# Altium integrated library Altera Cyclone IV E.IntLib: 141 symbols (part 33 of 33)
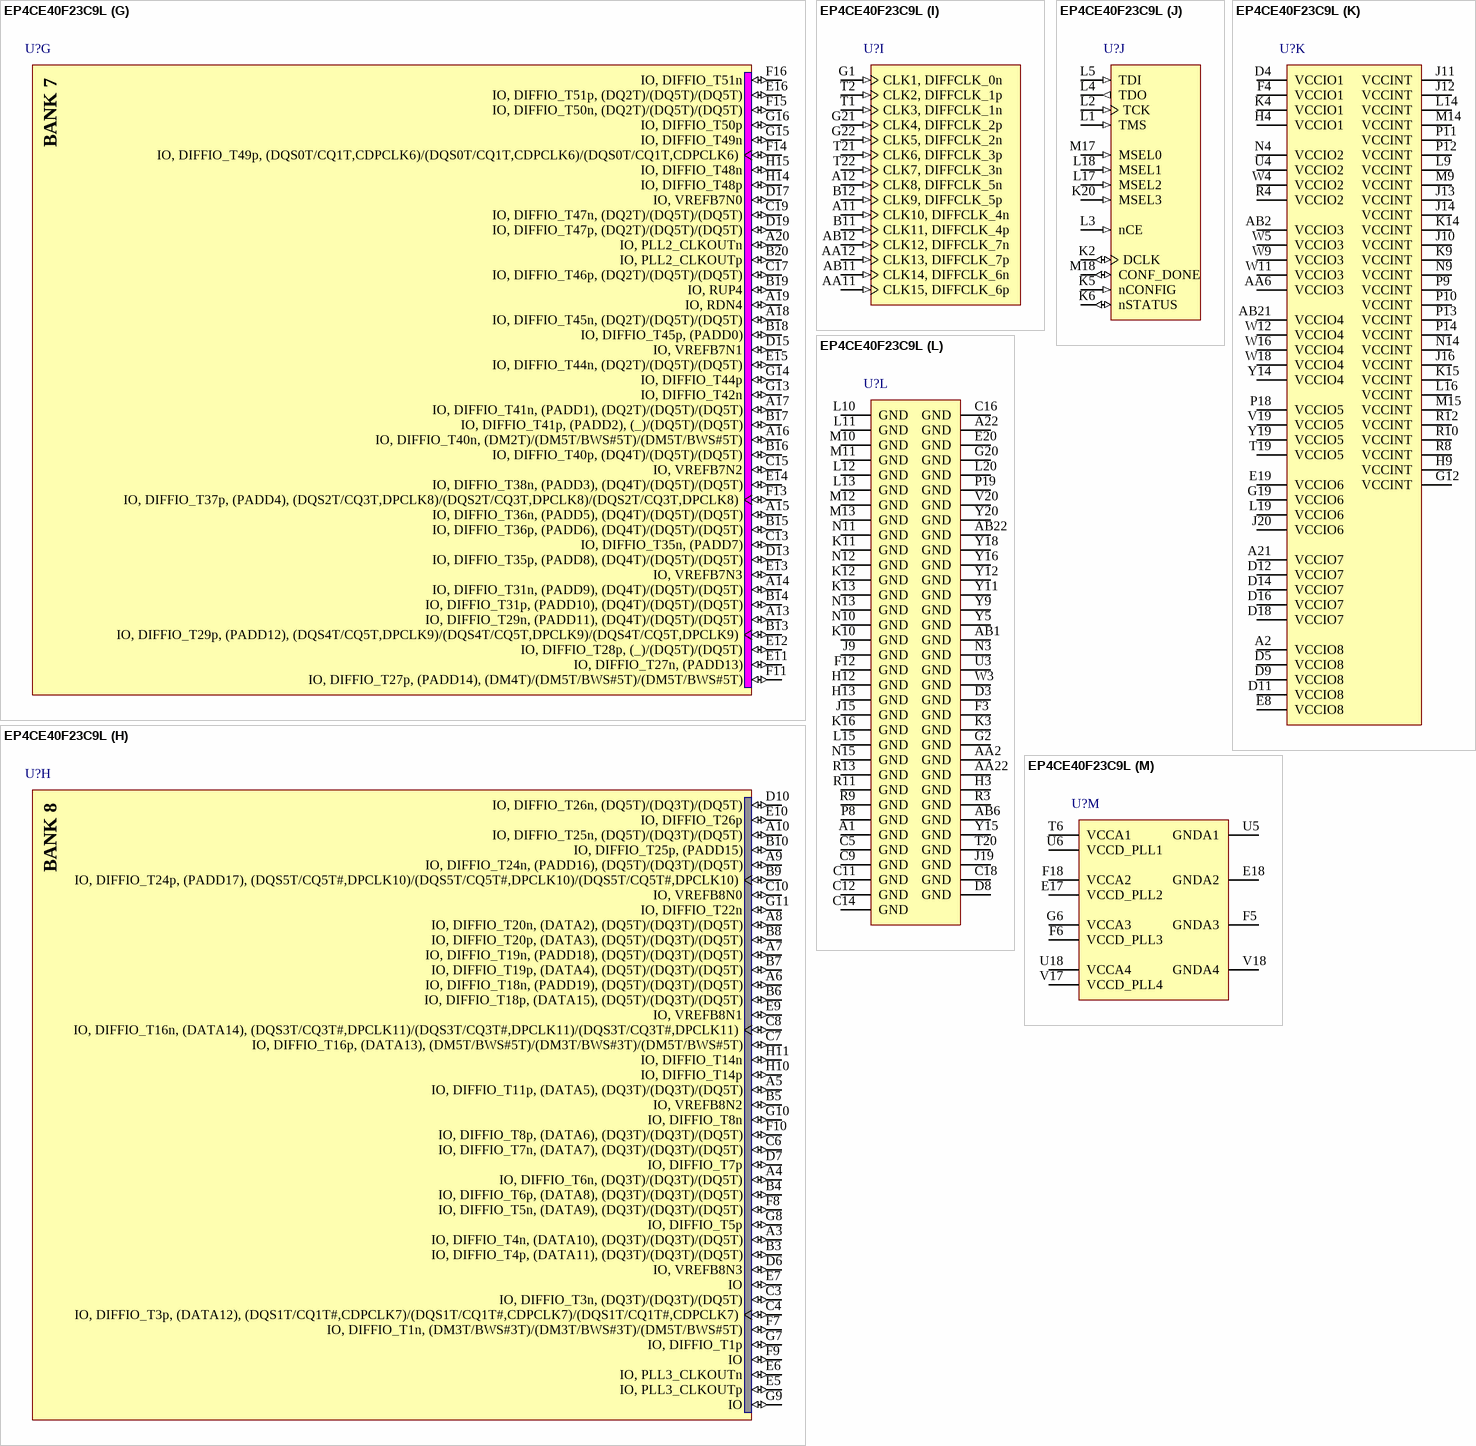
[diagram p419: symbol EP4CE40F23C9L]

## EP4CE40F23C9L
designator U?
Cyclone IV Family FPGA, 1V Core, 328 I/O Pins, 4 PLLs, 484-Pin FBGA, Speed Grade 9, Commercial Grade; DatasheetVersion: ver1.2, Mar-2010; PackageVersion: ver16.0, Dec-2009; PackageReference: FBGA484; PackageDescription: 484-Ball FineLine Ball Grid Array (FBGA484) - Flip Chip; Code_JEDEC: MS-034-AAJ-1; Code_IPC: BGA100P22X22-484; ComponentLink1Description: Manufacturer URL; ComponentLink1URL: http://www.altera.com/; ComponentLink2Description: Handbook; ComponentLink2URL: http://www.altera.com/literature/hb/cyclone-iv/cyclone4-handbook.pdf; ComponentLink3Description: Pinout; ComponentLink3URL: http://www.altera.com/literature/lit-dp.jsp?category=cyc%204&showspreadsheet=y; ComponentLink4Description: Package Specification; ComponentLink4URL: http://www.altera.com/literature/ds/dspkg.pdf
footprint FBGA484 (BGA, 484-Leads, Body 23x23mm, Pitch 1mm)
part A pins: B1 IO, DIFFIO_L2n, (DQ2L)/(DQ1L)/(DQ1L) (io), B2 IO, DIFFIO_L2p, (DQ2L)/(DQ1L)/(DQ1L) (io), C1 IO, DIFFIO_L7n, (DQ2L)/(DQ1L)/(DQ1L) (io), C2 IO, DIFFIO_L7p, (DQS2L/CQ3L,CDPCLK0)/(DQS2L/CQ3L,CDPCLK0)/(DQS2L/CQ3L,CDPCLK0) (io), D1 IO, DIFFIO_L8n, (DATA1,ASDO) (io), D2 IO, DIFFIO_L8p, (DQ2L)/(DQ1L)/(DQ1L) (io), E1 IO, DIFFIO_L10n, (_)/(DQ1L)/(DQ1L) (io), E2 IO, DIFFIO_L10p, (FLASH_nCE,nCSO) (io), E3 IO, DIFFIO_L4n, (DQ2L)/(DQ1L)/(DQ1L) (io), E4 IO, DIFFIO_L4p, (nRESET), (DQ2L)/(DQ1L)/(DQ1L) (io), F1 IO, DIFFIO_L12n, (DQ0L)/(DQ1L)/(DQ1L) (io), F2 IO, DIFFIO_L12p, (DM2L)/(DM1L/BWS#1L)/(DM1L/BWS#1L) (io), G3 IO, DIFFIO_L1n (io), G4 IO, DIFFIO_L1p (io), G5 IO, VREFB1N0 (io), H1 IO, DIFFIO_L23n, (DQ0L)/(DQ1L)/(DQ1L) (io), H2 IO, DIFFIO_L23p, (DQ0L)/(DQ1L)/(DQ1L) (io), H5 IO, VREFB1N2 (io), H6 IO, DIFFIO_L9p, (DQ2L)/(DQ1L)/(DQ1L) (io), H7 IO, VREFB1N1 (io), H8 IO, DIFFIO_L14p (io), J1 IO, DIFFIO_L24n, (DQ0L)/(DQ1L)/(DQ1L) (io), J2 IO, DIFFIO_L24p, (DQ0L)/(DQ1L)/(DQ1L) (io), J3 IO, VREFB1N3 (io), J4 IO, (DQS0L/CQ1L,DPCLK0)/(DQS0L/CQ1L,DPCLK0)/(DQS0L/CQ1L,DPCLK0) (io), J5 IO, DIFFIO_L18n (io), J6 IO, DIFFIO_L9n, (DQ2L)/(DQ1L)/(DQ1L) (io), J7 IO, DIFFIO_L21p (io), J8 IO, DIFFIO_L14n (io), K1 IO, (DATA0) (io), K7 IO, DIFFIO_L21n (io), K8 IO, DIFFIO_L20n (io), L8 IO, DIFFIO_L20p (io)
part B pins: AA1 IO, DIFFIO_L50n, (DQ3L)/(DQ3L)/(DQ1L) (io), L6 IO, DIFFIO_L26p, (DQ0L)/(DQ1L)/(DQ1L) (io), L7 IO, DIFFIO_L30n (io), M1 IO, DIFFIO_L27n, (_)/(DQ1L)/(DQ1L) (io), M2 IO, DIFFIO_L27p, (DQ0L)/(DQ1L)/(DQ1L) (io), M3 IO, DIFFIO_L28n, (DQ1L)/(DQ3L)/(DQ1L) (io), M4 IO, DIFFIO_L28p, (DM0L)/(DM1L/BWS#1L)/(DM1L/BWS#1L) (io), M5 IO, VREFB2N0 (io), M6 IO, DIFFIO_L26n, (DQ0L)/(DQ1L)/(DQ1L) (io), M7 IO, DIFFIO_L41n (io), M8 IO, DIFFIO_L42p (io), N1 IO, DIFFIO_L29n, (DQ1L)/(DQ3L)/(DQ1L) (io), N2 IO, DIFFIO_L29p, (DQ1L)/(DQ3L)/(DQ1L) (io), N5 IO, (DQ1L)/(DQ3L)/(DQ1L) (io), N6 IO, DIFFIO_L41p, (DQ3L)/(DQ3L)/(DQ1L) (io), N7 IO, DIFFIO_L49p (io), N8 IO, DIFFIO_L42n (io), P1 IO, DIFFIO_L32n, (DQ1L)/(DQ3L)/(DQ1L) (io), P2 IO, DIFFIO_L32p, (DQ1L)/(DQ3L)/(DQ1L) (io), P3 IO, DIFFIO_L34n, (DQ1L)/(DQ3L)/(DQ1L) (io), P4 IO, DIFFIO_L34p, (DQS1L/CQ1L#,DPCLK1)/(DQS1L/CQ1L#,DPCLK1)/(DQS1L/CQ1L#,DPCLK1) (io), P5 IO, VREFB2N1 (io), P6 IO, DIFFIO_L52p (io), P7 IO, DIFFIO_L49n (io), R1 IO, DIFFIO_L33n, (DQ1L)/(DQ3L)/(DQ1L) (io), R2 IO, DIFFIO_L33p, (DQ1L)/(DQ3L)/(DQ1L) (io), R5 IO, VREFB2N3 (io), R6 IO (io), R7 IO, DIFFIO_L53p (io), T3 IO, VREFB2N2 (io), T4 IO, (DQS3L/CQ3L#,CDPCLK1)/(DQS3L/CQ3L#,CDPCLK1)/(DQS3L/CQ3L#,CDPCLK1) (io), T5 IO, (DM3L/BWS#3L)/(DM3L/BWS#3L)/(DM1L/BWS#1L) (io), T7 IO, DIFFIO_L53n (io), U1 IO, DIFFIO_L35n, (DQ3L)/(DQ3L)/(DQ1L) (io), U2 IO, DIFFIO_L35p, (DM1L/BWS#1L)/(DM3L/BWS#3L)/(DM1L/BWS#1L) (io), V1 IO, DIFFIO_L38n, (DQ3L)/(DQ3L)/(DQ1L) (io), V2 IO, DIFFIO_L38p, (DQ3L)/(DQ3L)/(DQ1L) (io), V3 IO, RDN1 (io), V4 IO, RUP1 (io), W1 IO, DIFFIO_L44n, (DQ3L)/(DQ3L)/(DQ1L) (io), W2 IO, DIFFIO_L44p, (DQ3L)/(DQ3L)/(DQ1L) (io), Y1 IO, DIFFIO_L45n, (DQ3L)/(DQ3L)/(DQ1L) (io), Y2 IO, DIFFIO_L45p, (DQ3L)/(DQ3L)/(DQ1L) (io)
part C pins: AA3 IO, PLL1_CLKOUTp (io), AA4 IO, (DQ3B)/(DQ3B)/(DQ5B) (io), AA5 IO, DIFFIO_B8p, (DQ3B)/(DQ3B)/(DQ5B) (io), AA7 IO, DIFFIO_B14p, (DM5B/BWS#5B)/(DM3B/BWS#3B)/(DM5B/BWS#5B) (io), AA8 IO, DIFFIO_B18p, (DQ5B)/(DQ3B)/(DQ5B) (io), AA9 IO, DIFFIO_B21p, (DQ5B)/(DQ3B)/(DQ5B) (io), AA10 IO, DIFFIO_B27p, (DM4B)/(DM5B/BWS#5B)/(DM5B/BWS#5B) (io), AB3 IO, PLL1_CLKOUTn (io), AB4 IO, VREFB3N2 (io), AB5 IO, DIFFIO_B8n (io), AB7 IO, DIFFIO_B14n, (DQ5B)/(DQ3B)/(DQ5B) (io), AB8 IO, DIFFIO_B18n, (DQ5B)/(DQ3B)/(DQ5B) (io), AB9 IO, DIFFIO_B21n, (DQS5B/CQ5B#,DPCLK3)/(DQS5B/CQ5B#,DPCLK3)/(DQS5B/CQ5B#,DPCLK3) (io), AB10 IO, DIFFIO_B27n, (_)/(DQ5B)/(DQ5B) (io), T8 IO, DIFFIO_B11p (io), T9 IO, DIFFIO_B11n (io), T10 IO, DIFFIO_B15p (io), T11 IO, DIFFIO_B15n (io), U7 IO, DIFFIO_B3p (io), U8 IO, DIFFIO_B3n (io), U9 IO, DIFFIO_B13p, (DQ3B)/(DQ3B)/(DQ5B) (io), U10 IO, DIFFIO_B17n, (DQ5B)/(DQ3B)/(DQ5B) (io), U11 IO, VREFB3N0 (io), V5 IO, DIFFIO_B1n, (DM3B/BWS#3B)/(DM3B/BWS#3B)/(DM5B/BWS#5B) (io), V6 IO, DIFFIO_B1p (io), V7 IO, DIFFIO_B7n (io), V8 IO, DIFFIO_B13n, (DQ3B)/(DQ3B)/(DQ5B) (io), V9 IO, VREFB3N1 (io), V10 IO, DIFFIO_B16p, (DQS3B/CQ3B#,DPCLK2)/(DQS3B/CQ3B#,DPCLK2)/(DQS3B/CQ3B#,DPCLK2) (io), V11 IO, DIFFIO_B25n, (DQ5B)/(DQ3B)/(DQ5B) (io), W6 IO, DIFFIO_B7p, (DQ3B)/(DQ3B)/(DQ5B) (io), W7 IO, DIFFIO_B12p, (DQ3B)/(DQ3B)/(DQ5B) (io), W8 IO, (DQ3B)/(DQ3B)/(DQ5B) (io), W10 IO, DIFFIO_B26p, (DQ5B)/(DQ3B)/(DQ5B) (io), Y3 IO, DIFFIO_B4p, (DQ3B)/(DQ3B)/(DQ5B) (io), Y4 IO, VREFB3N3 (io), Y6 IO, DIFFIO_B6p, (DQS1B/CQ1B#,CDPCLK2)/(DQS1B/CQ1B#,CDPCLK2)/(DQS1B/CQ1B#,CDPCLK2) (io), Y7 IO, DIFFIO_B12n, (DQ3B)/(DQ3B)/(DQ5B) (io), Y8 IO, (DQ5B)/(DQ3B)/(DQ5B) (io), Y10 IO, DIFFIO_B26n, (DQ5B)/(DQ3B)/(DQ5B) (io)
part D pins: AA13 IO, DIFFIO_B28p, (DQ4B)/(DQ5B)/(DQ5B) (io), AA14 IO, DIFFIO_B29p, (DQ4B)/(DQ5B)/(DQ5B) (io), AA15 IO, DIFFIO_B33p, (DQ4B)/(DQ5B)/(DQ5B) (io), AA16 IO, DIFFIO_B35p, (DM2B)/(DM5B/BWS#5B)/(DM5B/BWS#5B) (io), AA17 IO, DIFFIO_B43p (io), AA18 IO, VREFB4N1 (io), AA19 IO, RUP2 (io), AA20 IO, DIFFIO_B49p, (_)/(DQ5B)/(DQ5B) (io), AB13 IO, DIFFIO_B28n, (DQ4B)/(DQ5B)/(DQ5B) (io), AB14 IO, DIFFIO_B29n, (DQ4B)/(DQ5B)/(DQ5B) (io), AB15 IO, DIFFIO_B33n, (DQ4B)/(DQ5B)/(DQ5B) (io), AB16 IO, DIFFIO_B35n, (DQ2B)/(DQ5B)/(DQ5B) (io), AB17 IO, DIFFIO_B43n (io), AB18 IO, (DQ2B)/(DQ5B)/(DQ5B) (io), AB19 IO, RDN2 (io), AB20 IO, DIFFIO_B49n, (DQ2B)/(DQ5B)/(DQ5B) (io), R14 IO, DIFFIO_B52p (io), R15 IO, DIFFIO_B52n (io), R16 IO, PLL4_CLKOUTn (io), T12 IO, DIFFIO_B36p (io), T13 IO, DIFFIO_B36n (io), T14 IO, DIFFIO_B42p (io), T15 IO, DIFFIO_B42n, (DQ2B)/(DQ5B)/(DQ5B) (io), T16 IO, PLL4_CLKOUTp (io), U12 IO, DIFFIO_B34p, (DQ4B)/(DQ5B)/(DQ5B) (io), U13 IO, DIFFIO_B38n (io), U14 IO, DIFFIO_B39n (io), U15 IO, DIFFIO_B40p (io), U16 IO, DIFFIO_B50p (io), U17 IO, DIFFIO_B50n (io), V12 IO, VREFB4N3 (io), V13 IO, (DQS2B/CQ3B,DPCLK5)/(DQS2B/CQ3B,DPCLK5)/(DQS2B/CQ3B,DPCLK5) (io), V14 IO, DIFFIO_B39p, (DQ2B)/(DQ5B)/(DQ5B) (io), V15 IO, DIFFIO_B40n, (DQ2B)/(DQ5B)/(DQ5B) (io), V16 IO, VREFB4N0 (io), W13 IO, DIFFIO_B32p, (DQ4B)/(DQ5B)/(DQ5B) (io), W14 IO, VREFB4N2 (io), W15 IO, DIFFIO_B41n, (DQ2B)/(DQ5B)/(DQ5B) (io), W17 IO, DIFFIO_B48p, (DQ2B)/(DQ5B)/(DQ5B) (io), Y13 IO, DIFFIO_B32n, (DQS4B/CQ5B,DPCLK4)/(DQS4B/CQ5B,DPCLK4)/(DQS4B/CQ5B,DPCLK4) (io), Y17 IO, DIFFIO_B48n, (DQS0B/CQ1B,CDPCLK3)/(DQS0B/CQ1B,CDPCLK3)/(DQS0B/CQ1B,CDPCLK3) (io)
part E pins: AA21 IO, DIFFIO_R56p, (DM3R/BWS#3R)/(DM3R/BWS#3R)/(DM1R/BWS#1R) (io), M16 IO, VREFB5N0 (io), M19 IO, DIFFIO_R30p, (DQ1R)/(DQ3R)/(DQ1R) (io), M20 IO, DIFFIO_R30n, (DQ1R)/(DQ3R)/(DQ1R) (io), M21 IO, DIFFIO_R31p, (DQ1R)/(DQ3R)/(DQ1R) (io), M22 IO, DIFFIO_R31n, (DQ1R)/(DQ3R)/(DQ1R) (io), N16 IO, DIFFIO_R40p (io), N17 IO, DIFFIO_R33n (io), N18 IO, DIFFIO_R33p, (DQS1R/CQ1R#,DPCLK6)/(DQS1R/CQ1R#,DPCLK6)/(DQS1R/CQ1R#,DPCLK6) (io), N19 IO, DIFFIO_R36p (io), N20 IO, DIFFIO_R36n, (DQ1R)/(DQ3R)/(DQ1R) (io), N21 IO, DIFFIO_R32p, (DEV_CLRn) (io), N22 IO, DIFFIO_R32n, (DEV_OE) (io), P15 IO, DIFFIO_R46n (io), P16 IO, DIFFIO_R46p (io), P17 IO (io), P20 IO, VREFB5N1 (io), P21 IO, DIFFIO_R38p, (DQ1R)/(DQ3R)/(DQ1R) (io), P22 IO, DIFFIO_R38n, (DQ1R)/(DQ3R)/(DQ1R) (io), R17 IO, VREFB5N2 (io), R18 IO, DIFFIO_R42n (io), R19 IO, DIFFIO_R42p, (DM1R/BWS#1R)/(DM3R/BWS#3R)/(DM1R/BWS#1R) (io), R20 IO, DIFFIO_R44n, (DQ3R)/(DQ3R)/(DQ1R) (io), R21 IO, DIFFIO_R39p, (DQ1R)/(DQ3R)/(DQ1R) (io), R22 IO, DIFFIO_R39n, (DQ1R)/(DQ3R)/(DQ1R) (io), T17 IO, RUP3 (io), T18 IO, RDN3 (io), U19 IO, DIFFIO_R50p (io), U20 IO, DIFFIO_R50n, (DQ3R)/(DQ3R)/(DQ1R) (io), U21 IO, DIFFIO_R43p, (DQ3R)/(DQ3R)/(DQ1R) (io), U22 IO, DIFFIO_R43n, (DQ3R)/(DQ3R)/(DQ1R) (io), V21 IO, DIFFIO_R45p, (DQ3R)/(DQ3R)/(DQ1R) (io), V22 IO, DIFFIO_R45n, (DQ3R)/(DQ3R)/(DQ1R) (io), W19 IO, VREFB5N3 (io), W20 IO, (DQS3R/CQ3R#,CDPCLK4)/(DQS3R/CQ3R#,CDPCLK4)/(DQS3R/CQ3R#,CDPCLK4) (io), W21 IO, DIFFIO_R49p, (DQ3R)/(DQ3R)/(DQ1R) (io), W22 IO, DIFFIO_R49n, (DQ3R)/(DQ3R)/(DQ1R) (io), Y21 IO, DIFFIO_R51p (io), Y22 IO, DIFFIO_R51n, (DQ3R)/(DQ3R)/(DQ1R) (io)
part F pins: B21 IO, DIFFIO_R5p, (PADD21), (DQ2R)/(DQ1R)/(DQ1R) (io), B22 IO, DIFFIO_R5n, (PADD22), (DQ2R)/(DQ1R)/(DQ1R) (io), C20 IO, DIFFIO_R4n, (PADD20), (DQS2R/CQ3R,CDPCLK5)/(DQS2R/CQ3R,CDPCLK5)/(DQS2R/CQ3R,CDPCLK5) (io), C21 IO, DIFFIO_R6p, (DQ2R)/(DQ1R)/(DQ1R) (io), C22 IO, DIFFIO_R6n, (DQ2R)/(DQ1R)/(DQ1R) (io), D20 IO, VREFB6N0 (io), D21 IO, DIFFIO_R9p, (_)/(DQ1R)/(DQ1R) (io), D22 IO, DIFFIO_R9n, (DM2R)/(DM1R/BWS#1R)/(DM1R/BWS#1R) (io), E21 IO, DIFFIO_R12p, (nOE), (_)/(DQ1R)/(DQ1R) (io), E22 IO, DIFFIO_R12n, (nWE), (DQ0R)/(DQ1R)/(DQ1R) (io), F17 IO, DIFFIO_R2n, (DQ2R)/(DQ1R)/(DQ1R) (io), F19 IO, DIFFIO_R8p, (DQ2R)/(DQ1R)/(DQ1R) (io), F20 IO, DIFFIO_R8n, (nAVD), (DQ2R)/(DQ1R)/(DQ1R) (io), F21 IO, DIFFIO_R18p, (DQ0R)/(DQ1R)/(DQ1R) (io), F22 IO, DIFFIO_R18n, (DQ0R)/(DQ1R)/(DQ1R) (io), G17 IO, DIFFIO_R2p (io), G18 IO, DIFFIO_R7n, (PADD23), (DQ2R)/(DQ1R)/(DQ1R) (io), H16 IO, DIFFIO_R10p (io), H17 IO, DIFFIO_R7p (io), H18 IO, VREFB6N1 (io), H19 IO, DIFFIO_R13p, (DQ0R)/(DQ1R)/(DQ1R) (io), H20 IO, DIFFIO_R13n, (DQ0R)/(DQ1R)/(DQ1R) (io), H21 IO, DIFFIO_R22p, (DQ0R)/(DQ1R)/(DQ1R) (io), H22 IO, DIFFIO_R22n, (DQ0R)/(DQ1R)/(DQ1R) (io), J17 IO, DIFFIO_R10n (io), J18 IO, VREFB6N2 (io), J21 IO, DIFFIO_R23p, (DM0R)/(DM1R/BWS#1R)/(DM1R/BWS#1R) (io), J22 IO, DIFFIO_R23n, (DQS0R/CQ1R,DPCLK7)/(DQS0R/CQ1R,DPCLK7)/(DQS0R/CQ1R,DPCLK7) (io), K17 IO, DIFFIO_R20n (io), K18 IO, DIFFIO_R20p, (DQ0R)/(DQ1R)/(DQ1R) (io), K19 IO, VREFB6N3 (io), K21 IO, DIFFIO_R24p, (CLKUSR) (io), K22 IO, DIFFIO_R24n, (nCEO) (io), L21 IO, DIFFIO_R27p, (CRC_ERROR) (io), L22 IO, DIFFIO_R27n, (INIT_DONE) (io)
part G pins: A13 IO, DIFFIO_T29n, (PADD11), (DQ4T)/(DQ5T)/(DQ5T) (io), A14 IO, DIFFIO_T31n, (PADD9), (DQ4T)/(DQ5T)/(DQ5T) (io), A15 IO, DIFFIO_T36n, (PADD5), (DQ4T)/(DQ5T)/(DQ5T) (io), A16 IO, DIFFIO_T40n, (DM2T)/(DM5T/BWS#5T)/(DM5T/BWS#5T) (io), A17 IO, DIFFIO_T41n, (PADD1), (DQ2T)/(DQ5T)/(DQ5T) (io), A18 IO, DIFFIO_T45n, (DQ2T)/(DQ5T)/(DQ5T) (io), A19 IO, RDN4 (io), A20 IO, PLL2_CLKOUTn (io), B13 IO, DIFFIO_T29p, (PADD12), (DQS4T/CQ5T,DPCLK9)/(DQS4T/CQ5T,DPCLK9)/(DQS4T/CQ5T,DPCLK9) (io), B14 IO, DIFFIO_T31p, (PADD10), (DQ4T)/(DQ5T)/(DQ5T) (io), B15 IO, DIFFIO_T36p, (PADD6), (DQ4T)/(DQ5T)/(DQ5T) (io), B16 IO, DIFFIO_T40p, (DQ4T)/(DQ5T)/(DQ5T) (io), B17 IO, DIFFIO_T41p, (PADD2), (_)/(DQ5T)/(DQ5T) (io), B18 IO, DIFFIO_T45p, (PADD0) (io), B19 IO, RUP4 (io), B20 IO, PLL2_CLKOUTp (io), C13 IO, DIFFIO_T35n, (PADD7) (io), C15 IO, VREFB7N2 (io), C17 IO, DIFFIO_T46p, (DQ2T)/(DQ5T)/(DQ5T) (io), C19 IO, DIFFIO_T47n, (DQ2T)/(DQ5T)/(DQ5T) (io), D13 IO, DIFFIO_T35p, (PADD8), (DQ4T)/(DQ5T)/(DQ5T) (io), D15 IO, VREFB7N1 (io), D17 IO, VREFB7N0 (io), D19 IO, DIFFIO_T47p, (DQ2T)/(DQ5T)/(DQ5T) (io), E11 IO, DIFFIO_T27n, (PADD13) (io), E12 IO, DIFFIO_T28p, (_)/(DQ5T)/(DQ5T) (io), E13 IO, VREFB7N3 (io), E14 IO, DIFFIO_T38n, (PADD3), (DQ4T)/(DQ5T)/(DQ5T) (io), E15 IO, DIFFIO_T44n, (DQ2T)/(DQ5T)/(DQ5T) (io), E16 IO, DIFFIO_T51p, (DQ2T)/(DQ5T)/(DQ5T) (io), F11 IO, DIFFIO_T27p, (PADD14), (DM4T)/(DM5T/BWS#5T)/(DM5T/BWS#5T) (io), F13 IO, DIFFIO_T37p, (PADD4), (DQS2T/CQ3T,DPCLK8)/(DQS2T/CQ3T,DPCLK8)/(DQS2T/CQ3T,DPCLK8) (io), F14 IO, DIFFIO_T49p, (DQS0T/CQ1T,CDPCLK6)/(DQS0T/CQ1T,CDPCLK6)/(DQS0T/CQ1T,CDPCLK6) (io), F15 IO, DIFFIO_T50n, (DQ2T)/(DQ5T)/(DQ5T) (io), F16 IO, DIFFIO_T51n (io), G13 IO, DIFFIO_T42n (io), G14 IO, DIFFIO_T44p (io), G15 IO, DIFFIO_T49n (io), G16 IO, DIFFIO_T50p (io), H14 IO, DIFFIO_T48p (io), H15 IO, DIFFIO_T48n (io)
part H pins: A3 IO, DIFFIO_T4n, (DATA10), (DQ3T)/(DQ3T)/(DQ5T) (io), A4 IO, DIFFIO_T6n, (DQ3T)/(DQ3T)/(DQ5T) (io), A5 IO, DIFFIO_T11p, (DATA5), (DQ3T)/(DQ3T)/(DQ5T) (io), A6 IO, DIFFIO_T18n, (PADD19), (DQ5T)/(DQ3T)/(DQ5T) (io), A7 IO, DIFFIO_T19n, (PADD18), (DQ5T)/(DQ3T)/(DQ5T) (io), A8 IO, DIFFIO_T20n, (DATA2), (DQ5T)/(DQ3T)/(DQ5T) (io), A9 IO, DIFFIO_T24n, (PADD16), (DQ5T)/(DQ3T)/(DQ5T) (io), A10 IO, DIFFIO_T25n, (DQ5T)/(DQ3T)/(DQ5T) (io), B3 IO, DIFFIO_T4p, (DATA11), (DQ3T)/(DQ3T)/(DQ5T) (io), B4 IO, DIFFIO_T6p, (DATA8), (DQ3T)/(DQ3T)/(DQ5T) (io), B5 IO, VREFB8N2 (io), B6 IO, DIFFIO_T18p, (DATA15), (DQ5T)/(DQ3T)/(DQ5T) (io), B7 IO, DIFFIO_T19p, (DATA4), (DQ5T)/(DQ3T)/(DQ5T) (io), B8 IO, DIFFIO_T20p, (DATA3), (DQ5T)/(DQ3T)/(DQ5T) (io), B9 IO, DIFFIO_T24p, (PADD17), (DQS5T/CQ5T#,DPCLK10)/(DQS5T/CQ5T#,DPCLK10)/(DQS5T/CQ5T#,DPCLK10) (io), B10 IO, DIFFIO_T25p, (PADD15) (io), C3 IO, DIFFIO_T3n, (DQ3T)/(DQ3T)/(DQ5T) (io), C4 IO, DIFFIO_T3p, (DATA12), (DQS1T/CQ1T#,CDPCLK7)/(DQS1T/CQ1T#,CDPCLK7)/(DQS1T/CQ1T#,CDPCLK7) (io), C6 IO, DIFFIO_T7n, (DATA7), (DQ3T)/(DQ3T)/(DQ5T) (io), C7 IO, DIFFIO_T16p, (DATA13), (DM5T/BWS#5T)/(DM3T/BWS#3T)/(DM5T/BWS#5T) (io), C8 IO, DIFFIO_T16n, (DATA14), (DQS3T/CQ3T#,DPCLK11)/(DQS3T/CQ3T#,DPCLK11)/(DQS3T/CQ3T#,DPCLK11) (io), C10 IO, VREFB8N0 (io), D6 IO, VREFB8N3 (io), D7 IO, DIFFIO_T7p (io), D10 IO, DIFFIO_T26n, (DQ5T)/(DQ3T)/(DQ5T) (io), E5 IO, PLL3_CLKOUTp (io), E6 IO, PLL3_CLKOUTn (io), E7 IO (io), E9 IO, VREFB8N1 (io), E10 IO, DIFFIO_T26p (io), F7 IO, DIFFIO_T1n, (DM3T/BWS#3T)/(DM3T/BWS#3T)/(DM5T/BWS#5T) (io), F8 IO, DIFFIO_T5n, (DATA9), (DQ3T)/(DQ3T)/(DQ5T) (io), F9 IO (io), F10 IO, DIFFIO_T8p, (DATA6), (DQ3T)/(DQ3T)/(DQ5T) (io), G7 IO, DIFFIO_T1p (io), G8 IO, DIFFIO_T5p (io), G9 IO (io), G10 IO, DIFFIO_T8n (io), G11 IO, DIFFIO_T22n (io), H10 IO, DIFFIO_T14p (io), H11 IO, DIFFIO_T14n (io)
part I pins: A11 CLK10, DIFFCLK_4n (in), A12 CLK8, DIFFCLK_5n (in), AA11 CLK15, DIFFCLK_6p (in), AA12 CLK13, DIFFCLK_7p (in), AB11 CLK14, DIFFCLK_6n (in), AB12 CLK12, DIFFCLK_7n (in), B11 CLK11, DIFFCLK_4p (in), B12 CLK9, DIFFCLK_5p (in), G1 CLK1, DIFFCLK_0n (in), G21 CLK4, DIFFCLK_2p (in), G22 CLK5, DIFFCLK_2n (in), T1 CLK3, DIFFCLK_1n (in), T2 CLK2, DIFFCLK_1p (in), T21 CLK6, DIFFCLK_3p (in), T22 CLK7, DIFFCLK_3n (in)
part J pins: K2 DCLK (io), K5 nCONFIG (in), K6 nSTATUS (io), K20 MSEL3 (in), L1 TMS (in), L2 TCK (in), L3 nCE (in), L4 TDO (out), L5 TDI (in), L17 MSEL2 (in), L18 MSEL1 (in), M17 MSEL0 (in), M18 CONF_DONE (io)
part K pins: A2 VCCIO8 (power), A21 VCCIO7 (power), AA6 VCCIO3 (power), AB2 VCCIO3 (power), AB21 VCCIO4 (power), D4 VCCIO1 (power), D5 VCCIO8 (power), D9 VCCIO8 (power), D11 VCCIO8 (power), D12 VCCIO7 (power), D14 VCCIO7 (power), D16 VCCIO7 (power), D18 VCCIO7 (power), E8 VCCIO8 (power), E19 VCCIO6 (power), F4 VCCIO1 (power), G12 VCCINT (power), G19 VCCIO6 (power), H4 VCCIO1 (power), H9 VCCINT (power), J10 VCCINT (power), J11 VCCINT (power), J12 VCCINT (power), J13 VCCINT (power), J14 VCCINT (power), J16 VCCINT (power), J20 VCCIO6 (power), K4 VCCIO1 (power), K9 VCCINT (power), K14 VCCINT (power), K15 VCCINT (power), L9 VCCINT (power), L14 VCCINT (power), L16 VCCINT (power), L19 VCCIO6 (power), M9 VCCINT (power), M14 VCCINT (power), M15 VCCINT (power), N4 VCCIO2 (power), N9 VCCINT (power), N14 VCCINT (power), P9 VCCINT (power), P10 VCCINT (power), P11 VCCINT (power), P12 VCCINT (power), P13 VCCINT (power), P14 VCCINT (power), P18 VCCIO5 (power), R4 VCCIO2 (power), R8 VCCINT (power), R10 VCCINT (power), R12 VCCINT (power), T19 VCCIO5 (power), U4 VCCIO2 (power), V19 VCCIO5 (power), W4 VCCIO2 (power), W5 VCCIO3 (power), W9 VCCIO3 (power), W11 VCCIO3 (power), W12 VCCIO4 (power), W16 VCCIO4 (power), W18 VCCIO4 (power), Y14 VCCIO4 (power), Y19 VCCIO5 (power)
part L pins: A1 GND (power), A22 GND (power), AA2 GND (power), AA22 GND (power), AB1 GND (power), AB6 GND (power), AB22 GND (power), C5 GND (power), C9 GND (power), C11 GND (power), C12 GND (power), C14 GND (power), C16 GND (power), C18 GND (power), D3 GND (power), D8 GND (power), E20 GND (power), F3 GND (power), F12 GND (power), G2 GND (power), G20 GND (power), H3 GND (power), H12 GND (power), H13 GND (power), J9 GND (power), J15 GND (power), J19 GND (power), K3 GND (power), K10 GND (power), K11 GND (power), K12 GND (power), K13 GND (power), K16 GND (power), L10 GND (power), L11 GND (power), L12 GND (power), L13 GND (power), L15 GND (power), L20 GND (power), M10 GND (power), M11 GND (power), M12 GND (power), M13 GND (power), N3 GND (power), N10 GND (power), N11 GND (power), N12 GND (power), N13 GND (power), N15 GND (power), P8 GND (power), P19 GND (power), R3 GND (power), R9 GND (power), R11 GND (power), R13 GND (power), T20 GND (power), U3 GND (power), V20 GND (power), W3 GND (power), Y5 GND (power), Y9 GND (power), Y11 GND (power), Y12 GND (power), Y15 GND (power), Y16 GND (power), Y18 GND (power), Y20 GND (power)
part M pins: E17 VCCD_PLL2 (power), E18 GNDA2 (power), F5 GNDA3 (power), F6 VCCD_PLL3 (power), F18 VCCA2 (power), G6 VCCA3 (power), T6 VCCA1 (power), U5 GNDA1 (power), U6 VCCD_PLL1 (power), U18 VCCA4 (power), V17 VCCD_PLL4 (power), V18 GNDA4 (power)
part A text: BANK 1
part B text: BANK 2
part C text: BANK 3
part D text: BANK 4
part E text: BANK 5
part F text: BANK 6
part G text: BANK 7
part H text: BANK 8

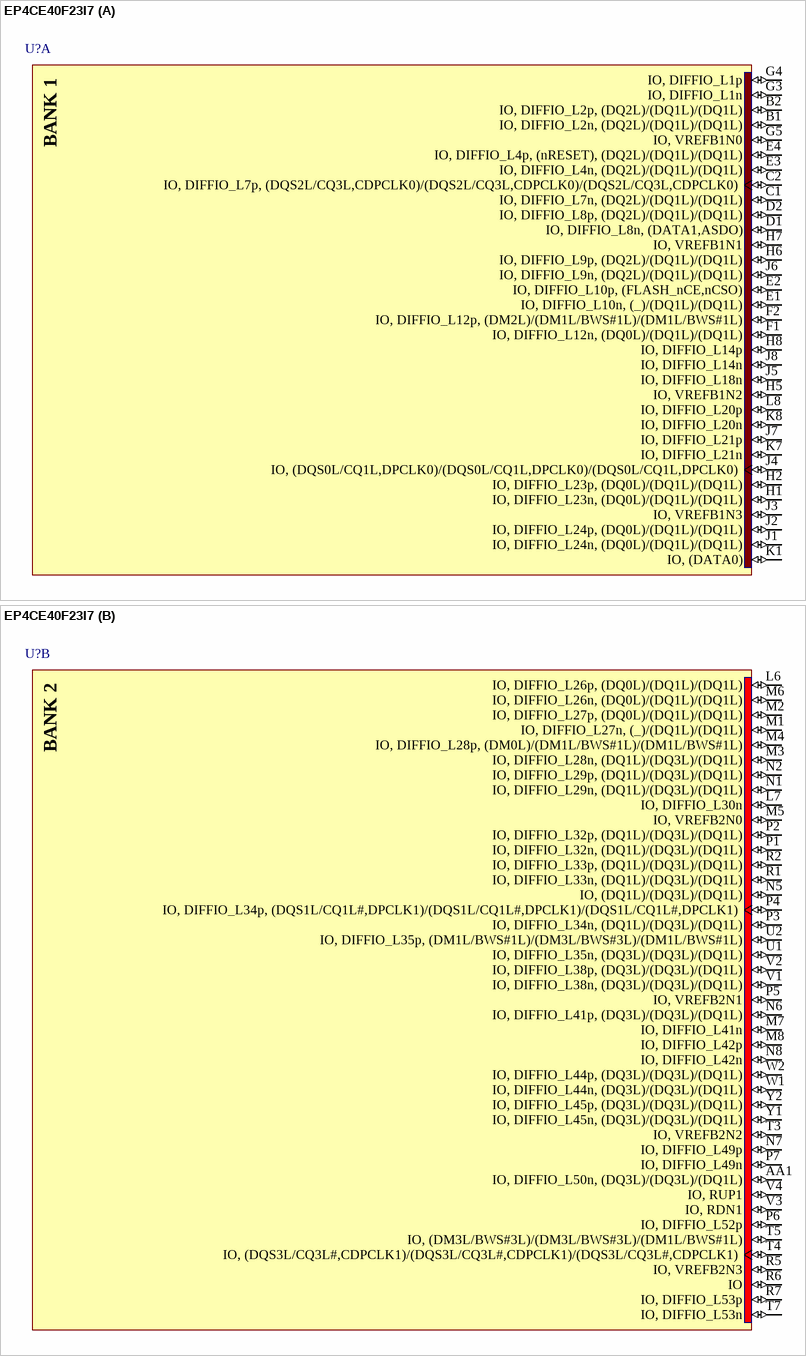
[diagram p192: symbol EP4CE40F23I7]

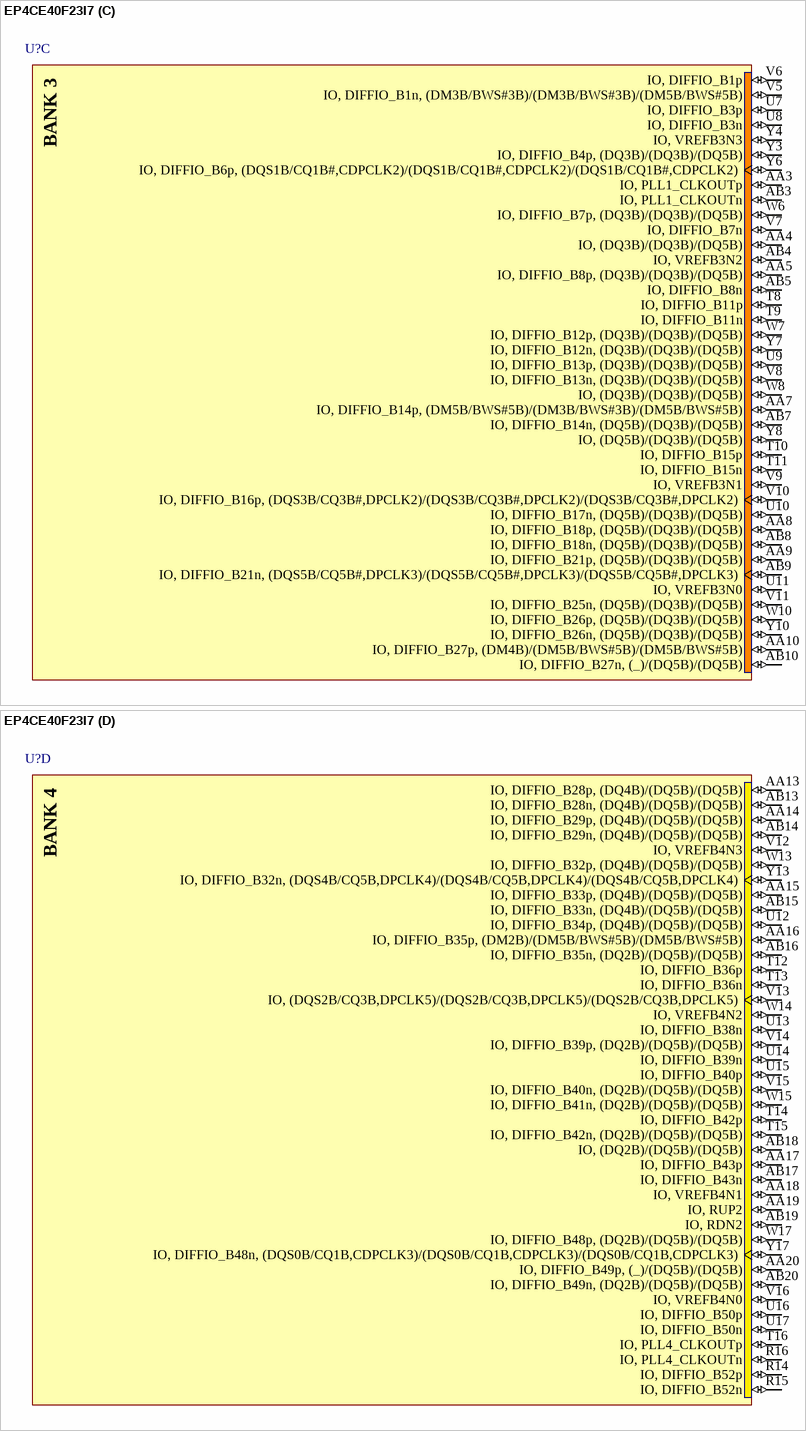
[diagram p193: symbol EP4CE40F23I7]

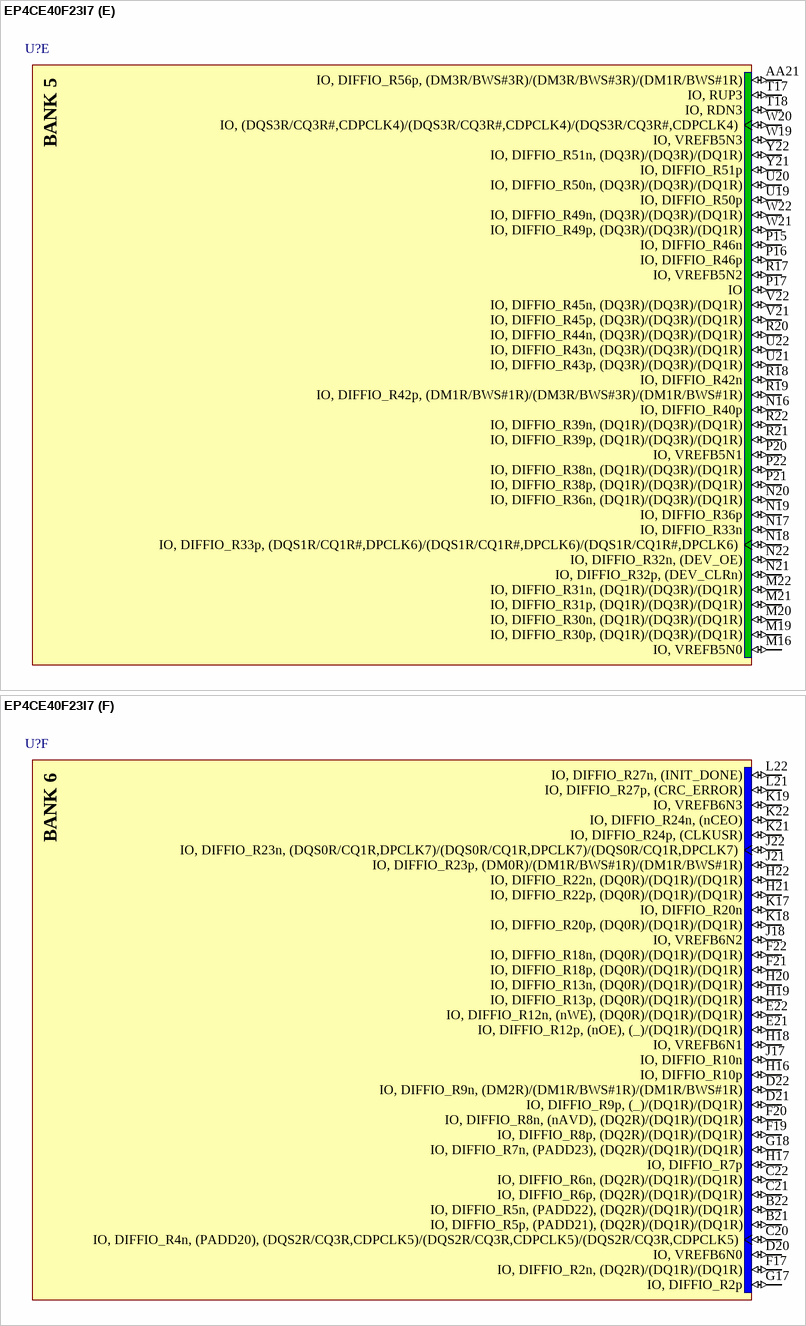
[diagram p194: symbol EP4CE40F23I7]

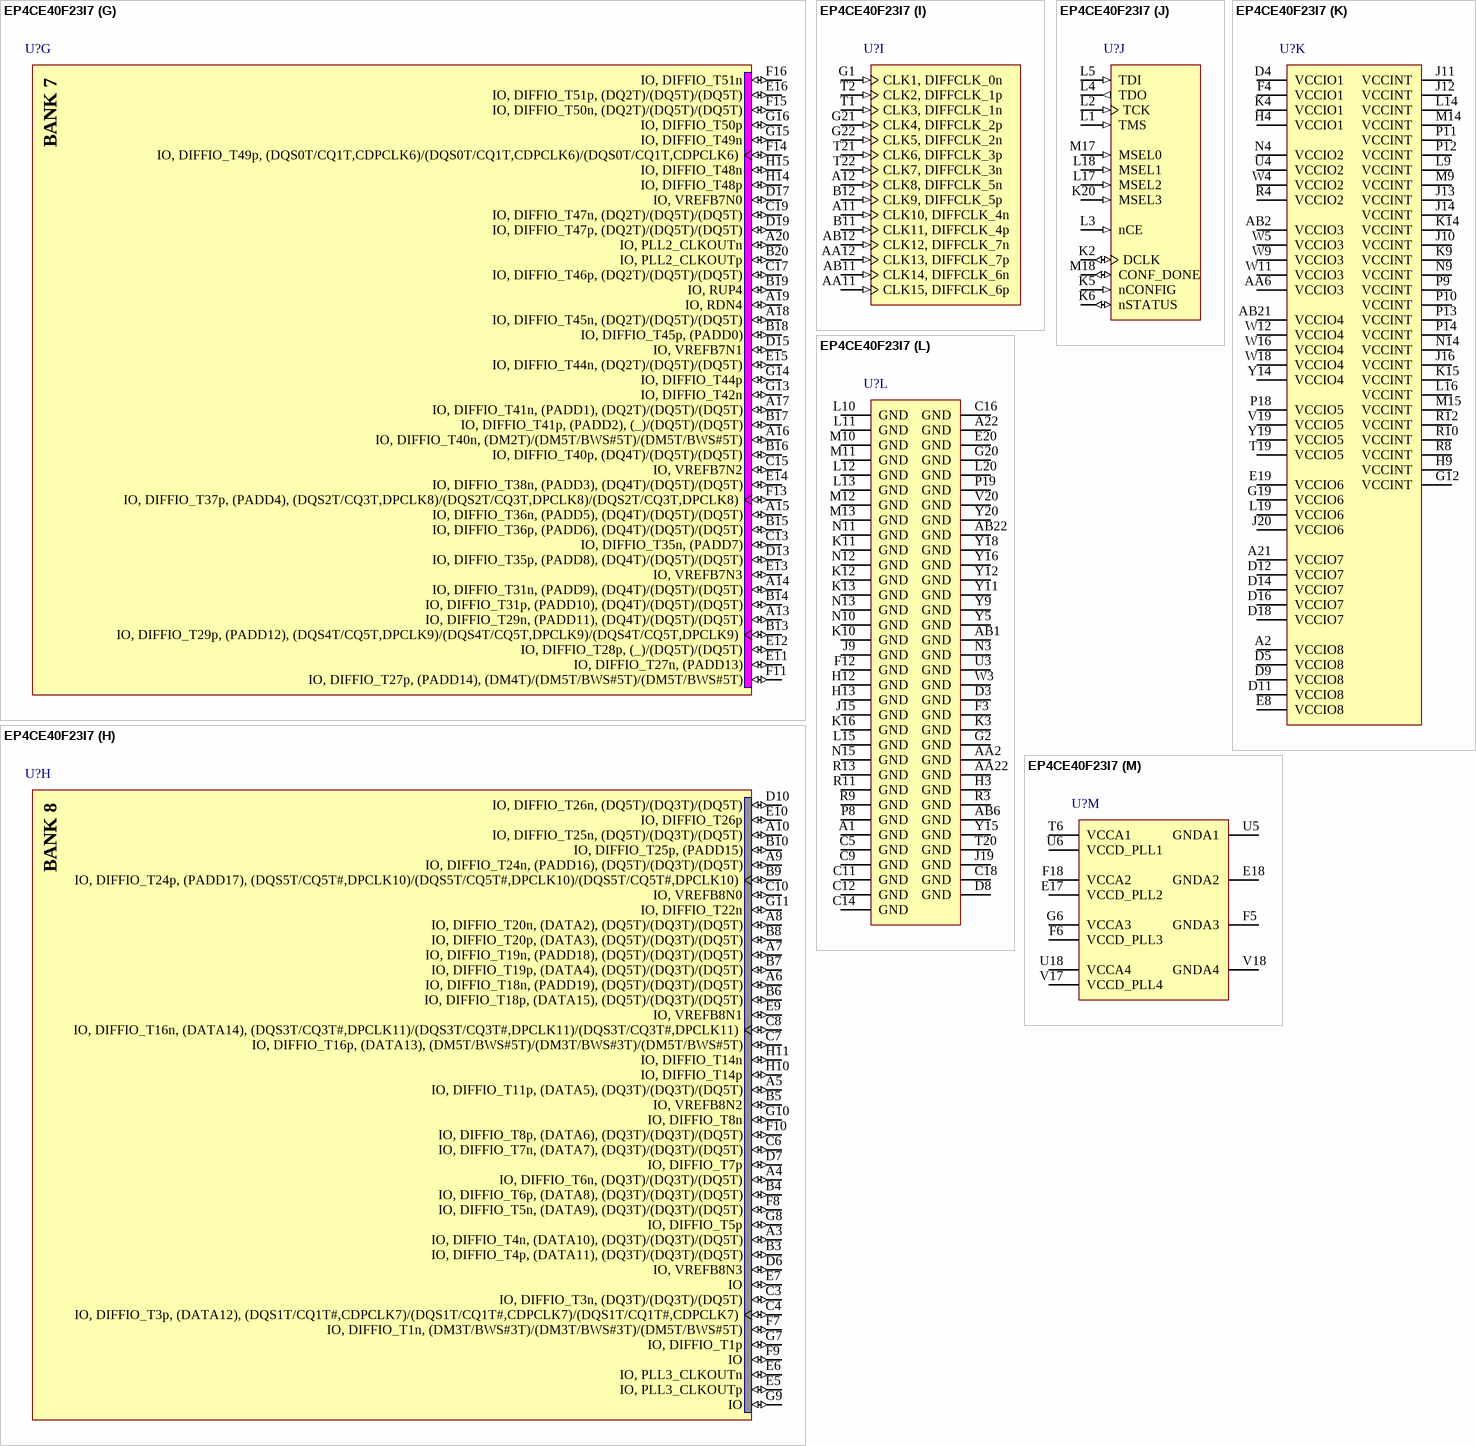
[diagram p195: symbol EP4CE40F23I7]

## EP4CE40F23I7
designator U?
Cyclone IV Family FPGA, 2V Core, 328 I/O Pins, 4 PLLs, 484-Pin FBGA, Speed Grade 7, Industrial Grade; DatasheetVersion: ver1.2, Mar-2010; PackageVersion: ver16.0, Dec-2009; PackageReference: FBGA484; PackageDescription: 484-Ball FineLine Ball Grid Array (FBGA484) - Flip Chip; Code_JEDEC: MS-034-AAJ-1; Code_IPC: BGA100P22X22-484; ComponentLink1Description: Manufacturer URL; ComponentLink1URL: http://www.altera.com/; ComponentLink2Description: Handbook; ComponentLink2URL: http://www.altera.com/literature/hb/cyclone-iv/cyclone4-handbook.pdf; ComponentLink3Description: Pinout; ComponentLink3URL: http://www.altera.com/literature/lit-dp.jsp?category=cyc%204&showspreadsheet=y; ComponentLink4Description: Package Specification; ComponentLink4URL: http://www.altera.com/literature/ds/dspkg.pdf
footprint FBGA484 (BGA, 484-Leads, Body 23x23mm, Pitch 1mm)
part A pins: B1 IO, DIFFIO_L2n, (DQ2L)/(DQ1L)/(DQ1L) (io), B2 IO, DIFFIO_L2p, (DQ2L)/(DQ1L)/(DQ1L) (io), C1 IO, DIFFIO_L7n, (DQ2L)/(DQ1L)/(DQ1L) (io), C2 IO, DIFFIO_L7p, (DQS2L/CQ3L,CDPCLK0)/(DQS2L/CQ3L,CDPCLK0)/(DQS2L/CQ3L,CDPCLK0) (io), D1 IO, DIFFIO_L8n, (DATA1,ASDO) (io), D2 IO, DIFFIO_L8p, (DQ2L)/(DQ1L)/(DQ1L) (io), E1 IO, DIFFIO_L10n, (_)/(DQ1L)/(DQ1L) (io), E2 IO, DIFFIO_L10p, (FLASH_nCE,nCSO) (io), E3 IO, DIFFIO_L4n, (DQ2L)/(DQ1L)/(DQ1L) (io), E4 IO, DIFFIO_L4p, (nRESET), (DQ2L)/(DQ1L)/(DQ1L) (io), F1 IO, DIFFIO_L12n, (DQ0L)/(DQ1L)/(DQ1L) (io), F2 IO, DIFFIO_L12p, (DM2L)/(DM1L/BWS#1L)/(DM1L/BWS#1L) (io), G3 IO, DIFFIO_L1n (io), G4 IO, DIFFIO_L1p (io), G5 IO, VREFB1N0 (io), H1 IO, DIFFIO_L23n, (DQ0L)/(DQ1L)/(DQ1L) (io), H2 IO, DIFFIO_L23p, (DQ0L)/(DQ1L)/(DQ1L) (io), H5 IO, VREFB1N2 (io), H6 IO, DIFFIO_L9p, (DQ2L)/(DQ1L)/(DQ1L) (io), H7 IO, VREFB1N1 (io), H8 IO, DIFFIO_L14p (io), J1 IO, DIFFIO_L24n, (DQ0L)/(DQ1L)/(DQ1L) (io), J2 IO, DIFFIO_L24p, (DQ0L)/(DQ1L)/(DQ1L) (io), J3 IO, VREFB1N3 (io), J4 IO, (DQS0L/CQ1L,DPCLK0)/(DQS0L/CQ1L,DPCLK0)/(DQS0L/CQ1L,DPCLK0) (io), J5 IO, DIFFIO_L18n (io), J6 IO, DIFFIO_L9n, (DQ2L)/(DQ1L)/(DQ1L) (io), J7 IO, DIFFIO_L21p (io), J8 IO, DIFFIO_L14n (io), K1 IO, (DATA0) (io), K7 IO, DIFFIO_L21n (io), K8 IO, DIFFIO_L20n (io), L8 IO, DIFFIO_L20p (io)
part B pins: AA1 IO, DIFFIO_L50n, (DQ3L)/(DQ3L)/(DQ1L) (io), L6 IO, DIFFIO_L26p, (DQ0L)/(DQ1L)/(DQ1L) (io), L7 IO, DIFFIO_L30n (io), M1 IO, DIFFIO_L27n, (_)/(DQ1L)/(DQ1L) (io), M2 IO, DIFFIO_L27p, (DQ0L)/(DQ1L)/(DQ1L) (io), M3 IO, DIFFIO_L28n, (DQ1L)/(DQ3L)/(DQ1L) (io), M4 IO, DIFFIO_L28p, (DM0L)/(DM1L/BWS#1L)/(DM1L/BWS#1L) (io), M5 IO, VREFB2N0 (io), M6 IO, DIFFIO_L26n, (DQ0L)/(DQ1L)/(DQ1L) (io), M7 IO, DIFFIO_L41n (io), M8 IO, DIFFIO_L42p (io), N1 IO, DIFFIO_L29n, (DQ1L)/(DQ3L)/(DQ1L) (io), N2 IO, DIFFIO_L29p, (DQ1L)/(DQ3L)/(DQ1L) (io), N5 IO, (DQ1L)/(DQ3L)/(DQ1L) (io), N6 IO, DIFFIO_L41p, (DQ3L)/(DQ3L)/(DQ1L) (io), N7 IO, DIFFIO_L49p (io), N8 IO, DIFFIO_L42n (io), P1 IO, DIFFIO_L32n, (DQ1L)/(DQ3L)/(DQ1L) (io), P2 IO, DIFFIO_L32p, (DQ1L)/(DQ3L)/(DQ1L) (io), P3 IO, DIFFIO_L34n, (DQ1L)/(DQ3L)/(DQ1L) (io), P4 IO, DIFFIO_L34p, (DQS1L/CQ1L#,DPCLK1)/(DQS1L/CQ1L#,DPCLK1)/(DQS1L/CQ1L#,DPCLK1) (io), P5 IO, VREFB2N1 (io), P6 IO, DIFFIO_L52p (io), P7 IO, DIFFIO_L49n (io), R1 IO, DIFFIO_L33n, (DQ1L)/(DQ3L)/(DQ1L) (io), R2 IO, DIFFIO_L33p, (DQ1L)/(DQ3L)/(DQ1L) (io), R5 IO, VREFB2N3 (io), R6 IO (io), R7 IO, DIFFIO_L53p (io), T3 IO, VREFB2N2 (io), T4 IO, (DQS3L/CQ3L#,CDPCLK1)/(DQS3L/CQ3L#,CDPCLK1)/(DQS3L/CQ3L#,CDPCLK1) (io), T5 IO, (DM3L/BWS#3L)/(DM3L/BWS#3L)/(DM1L/BWS#1L) (io), T7 IO, DIFFIO_L53n (io), U1 IO, DIFFIO_L35n, (DQ3L)/(DQ3L)/(DQ1L) (io), U2 IO, DIFFIO_L35p, (DM1L/BWS#1L)/(DM3L/BWS#3L)/(DM1L/BWS#1L) (io), V1 IO, DIFFIO_L38n, (DQ3L)/(DQ3L)/(DQ1L) (io), V2 IO, DIFFIO_L38p, (DQ3L)/(DQ3L)/(DQ1L) (io), V3 IO, RDN1 (io), V4 IO, RUP1 (io), W1 IO, DIFFIO_L44n, (DQ3L)/(DQ3L)/(DQ1L) (io), W2 IO, DIFFIO_L44p, (DQ3L)/(DQ3L)/(DQ1L) (io), Y1 IO, DIFFIO_L45n, (DQ3L)/(DQ3L)/(DQ1L) (io), Y2 IO, DIFFIO_L45p, (DQ3L)/(DQ3L)/(DQ1L) (io)
part C pins: AA3 IO, PLL1_CLKOUTp (io), AA4 IO, (DQ3B)/(DQ3B)/(DQ5B) (io), AA5 IO, DIFFIO_B8p, (DQ3B)/(DQ3B)/(DQ5B) (io), AA7 IO, DIFFIO_B14p, (DM5B/BWS#5B)/(DM3B/BWS#3B)/(DM5B/BWS#5B) (io), AA8 IO, DIFFIO_B18p, (DQ5B)/(DQ3B)/(DQ5B) (io), AA9 IO, DIFFIO_B21p, (DQ5B)/(DQ3B)/(DQ5B) (io), AA10 IO, DIFFIO_B27p, (DM4B)/(DM5B/BWS#5B)/(DM5B/BWS#5B) (io), AB3 IO, PLL1_CLKOUTn (io), AB4 IO, VREFB3N2 (io), AB5 IO, DIFFIO_B8n (io), AB7 IO, DIFFIO_B14n, (DQ5B)/(DQ3B)/(DQ5B) (io), AB8 IO, DIFFIO_B18n, (DQ5B)/(DQ3B)/(DQ5B) (io), AB9 IO, DIFFIO_B21n, (DQS5B/CQ5B#,DPCLK3)/(DQS5B/CQ5B#,DPCLK3)/(DQS5B/CQ5B#,DPCLK3) (io), AB10 IO, DIFFIO_B27n, (_)/(DQ5B)/(DQ5B) (io), T8 IO, DIFFIO_B11p (io), T9 IO, DIFFIO_B11n (io), T10 IO, DIFFIO_B15p (io), T11 IO, DIFFIO_B15n (io), U7 IO, DIFFIO_B3p (io), U8 IO, DIFFIO_B3n (io), U9 IO, DIFFIO_B13p, (DQ3B)/(DQ3B)/(DQ5B) (io), U10 IO, DIFFIO_B17n, (DQ5B)/(DQ3B)/(DQ5B) (io), U11 IO, VREFB3N0 (io), V5 IO, DIFFIO_B1n, (DM3B/BWS#3B)/(DM3B/BWS#3B)/(DM5B/BWS#5B) (io), V6 IO, DIFFIO_B1p (io), V7 IO, DIFFIO_B7n (io), V8 IO, DIFFIO_B13n, (DQ3B)/(DQ3B)/(DQ5B) (io), V9 IO, VREFB3N1 (io), V10 IO, DIFFIO_B16p, (DQS3B/CQ3B#,DPCLK2)/(DQS3B/CQ3B#,DPCLK2)/(DQS3B/CQ3B#,DPCLK2) (io), V11 IO, DIFFIO_B25n, (DQ5B)/(DQ3B)/(DQ5B) (io), W6 IO, DIFFIO_B7p, (DQ3B)/(DQ3B)/(DQ5B) (io), W7 IO, DIFFIO_B12p, (DQ3B)/(DQ3B)/(DQ5B) (io), W8 IO, (DQ3B)/(DQ3B)/(DQ5B) (io), W10 IO, DIFFIO_B26p, (DQ5B)/(DQ3B)/(DQ5B) (io), Y3 IO, DIFFIO_B4p, (DQ3B)/(DQ3B)/(DQ5B) (io), Y4 IO, VREFB3N3 (io), Y6 IO, DIFFIO_B6p, (DQS1B/CQ1B#,CDPCLK2)/(DQS1B/CQ1B#,CDPCLK2)/(DQS1B/CQ1B#,CDPCLK2) (io), Y7 IO, DIFFIO_B12n, (DQ3B)/(DQ3B)/(DQ5B) (io), Y8 IO, (DQ5B)/(DQ3B)/(DQ5B) (io), Y10 IO, DIFFIO_B26n, (DQ5B)/(DQ3B)/(DQ5B) (io)
part D pins: AA13 IO, DIFFIO_B28p, (DQ4B)/(DQ5B)/(DQ5B) (io), AA14 IO, DIFFIO_B29p, (DQ4B)/(DQ5B)/(DQ5B) (io), AA15 IO, DIFFIO_B33p, (DQ4B)/(DQ5B)/(DQ5B) (io), AA16 IO, DIFFIO_B35p, (DM2B)/(DM5B/BWS#5B)/(DM5B/BWS#5B) (io), AA17 IO, DIFFIO_B43p (io), AA18 IO, VREFB4N1 (io), AA19 IO, RUP2 (io), AA20 IO, DIFFIO_B49p, (_)/(DQ5B)/(DQ5B) (io), AB13 IO, DIFFIO_B28n, (DQ4B)/(DQ5B)/(DQ5B) (io), AB14 IO, DIFFIO_B29n, (DQ4B)/(DQ5B)/(DQ5B) (io), AB15 IO, DIFFIO_B33n, (DQ4B)/(DQ5B)/(DQ5B) (io), AB16 IO, DIFFIO_B35n, (DQ2B)/(DQ5B)/(DQ5B) (io), AB17 IO, DIFFIO_B43n (io), AB18 IO, (DQ2B)/(DQ5B)/(DQ5B) (io), AB19 IO, RDN2 (io), AB20 IO, DIFFIO_B49n, (DQ2B)/(DQ5B)/(DQ5B) (io), R14 IO, DIFFIO_B52p (io), R15 IO, DIFFIO_B52n (io), R16 IO, PLL4_CLKOUTn (io), T12 IO, DIFFIO_B36p (io), T13 IO, DIFFIO_B36n (io), T14 IO, DIFFIO_B42p (io), T15 IO, DIFFIO_B42n, (DQ2B)/(DQ5B)/(DQ5B) (io), T16 IO, PLL4_CLKOUTp (io), U12 IO, DIFFIO_B34p, (DQ4B)/(DQ5B)/(DQ5B) (io), U13 IO, DIFFIO_B38n (io), U14 IO, DIFFIO_B39n (io), U15 IO, DIFFIO_B40p (io), U16 IO, DIFFIO_B50p (io), U17 IO, DIFFIO_B50n (io), V12 IO, VREFB4N3 (io), V13 IO, (DQS2B/CQ3B,DPCLK5)/(DQS2B/CQ3B,DPCLK5)/(DQS2B/CQ3B,DPCLK5) (io), V14 IO, DIFFIO_B39p, (DQ2B)/(DQ5B)/(DQ5B) (io), V15 IO, DIFFIO_B40n, (DQ2B)/(DQ5B)/(DQ5B) (io), V16 IO, VREFB4N0 (io), W13 IO, DIFFIO_B32p, (DQ4B)/(DQ5B)/(DQ5B) (io), W14 IO, VREFB4N2 (io), W15 IO, DIFFIO_B41n, (DQ2B)/(DQ5B)/(DQ5B) (io), W17 IO, DIFFIO_B48p, (DQ2B)/(DQ5B)/(DQ5B) (io), Y13 IO, DIFFIO_B32n, (DQS4B/CQ5B,DPCLK4)/(DQS4B/CQ5B,DPCLK4)/(DQS4B/CQ5B,DPCLK4) (io), Y17 IO, DIFFIO_B48n, (DQS0B/CQ1B,CDPCLK3)/(DQS0B/CQ1B,CDPCLK3)/(DQS0B/CQ1B,CDPCLK3) (io)
part E pins: AA21 IO, DIFFIO_R56p, (DM3R/BWS#3R)/(DM3R/BWS#3R)/(DM1R/BWS#1R) (io), M16 IO, VREFB5N0 (io), M19 IO, DIFFIO_R30p, (DQ1R)/(DQ3R)/(DQ1R) (io), M20 IO, DIFFIO_R30n, (DQ1R)/(DQ3R)/(DQ1R) (io), M21 IO, DIFFIO_R31p, (DQ1R)/(DQ3R)/(DQ1R) (io), M22 IO, DIFFIO_R31n, (DQ1R)/(DQ3R)/(DQ1R) (io), N16 IO, DIFFIO_R40p (io), N17 IO, DIFFIO_R33n (io), N18 IO, DIFFIO_R33p, (DQS1R/CQ1R#,DPCLK6)/(DQS1R/CQ1R#,DPCLK6)/(DQS1R/CQ1R#,DPCLK6) (io), N19 IO, DIFFIO_R36p (io), N20 IO, DIFFIO_R36n, (DQ1R)/(DQ3R)/(DQ1R) (io), N21 IO, DIFFIO_R32p, (DEV_CLRn) (io), N22 IO, DIFFIO_R32n, (DEV_OE) (io), P15 IO, DIFFIO_R46n (io), P16 IO, DIFFIO_R46p (io), P17 IO (io), P20 IO, VREFB5N1 (io), P21 IO, DIFFIO_R38p, (DQ1R)/(DQ3R)/(DQ1R) (io), P22 IO, DIFFIO_R38n, (DQ1R)/(DQ3R)/(DQ1R) (io), R17 IO, VREFB5N2 (io), R18 IO, DIFFIO_R42n (io), R19 IO, DIFFIO_R42p, (DM1R/BWS#1R)/(DM3R/BWS#3R)/(DM1R/BWS#1R) (io), R20 IO, DIFFIO_R44n, (DQ3R)/(DQ3R)/(DQ1R) (io), R21 IO, DIFFIO_R39p, (DQ1R)/(DQ3R)/(DQ1R) (io), R22 IO, DIFFIO_R39n, (DQ1R)/(DQ3R)/(DQ1R) (io), T17 IO, RUP3 (io), T18 IO, RDN3 (io), U19 IO, DIFFIO_R50p (io), U20 IO, DIFFIO_R50n, (DQ3R)/(DQ3R)/(DQ1R) (io), U21 IO, DIFFIO_R43p, (DQ3R)/(DQ3R)/(DQ1R) (io), U22 IO, DIFFIO_R43n, (DQ3R)/(DQ3R)/(DQ1R) (io), V21 IO, DIFFIO_R45p, (DQ3R)/(DQ3R)/(DQ1R) (io), V22 IO, DIFFIO_R45n, (DQ3R)/(DQ3R)/(DQ1R) (io), W19 IO, VREFB5N3 (io), W20 IO, (DQS3R/CQ3R#,CDPCLK4)/(DQS3R/CQ3R#,CDPCLK4)/(DQS3R/CQ3R#,CDPCLK4) (io), W21 IO, DIFFIO_R49p, (DQ3R)/(DQ3R)/(DQ1R) (io), W22 IO, DIFFIO_R49n, (DQ3R)/(DQ3R)/(DQ1R) (io), Y21 IO, DIFFIO_R51p (io), Y22 IO, DIFFIO_R51n, (DQ3R)/(DQ3R)/(DQ1R) (io)
part F pins: B21 IO, DIFFIO_R5p, (PADD21), (DQ2R)/(DQ1R)/(DQ1R) (io), B22 IO, DIFFIO_R5n, (PADD22), (DQ2R)/(DQ1R)/(DQ1R) (io), C20 IO, DIFFIO_R4n, (PADD20), (DQS2R/CQ3R,CDPCLK5)/(DQS2R/CQ3R,CDPCLK5)/(DQS2R/CQ3R,CDPCLK5) (io), C21 IO, DIFFIO_R6p, (DQ2R)/(DQ1R)/(DQ1R) (io), C22 IO, DIFFIO_R6n, (DQ2R)/(DQ1R)/(DQ1R) (io), D20 IO, VREFB6N0 (io), D21 IO, DIFFIO_R9p, (_)/(DQ1R)/(DQ1R) (io), D22 IO, DIFFIO_R9n, (DM2R)/(DM1R/BWS#1R)/(DM1R/BWS#1R) (io), E21 IO, DIFFIO_R12p, (nOE), (_)/(DQ1R)/(DQ1R) (io), E22 IO, DIFFIO_R12n, (nWE), (DQ0R)/(DQ1R)/(DQ1R) (io), F17 IO, DIFFIO_R2n, (DQ2R)/(DQ1R)/(DQ1R) (io), F19 IO, DIFFIO_R8p, (DQ2R)/(DQ1R)/(DQ1R) (io), F20 IO, DIFFIO_R8n, (nAVD), (DQ2R)/(DQ1R)/(DQ1R) (io), F21 IO, DIFFIO_R18p, (DQ0R)/(DQ1R)/(DQ1R) (io), F22 IO, DIFFIO_R18n, (DQ0R)/(DQ1R)/(DQ1R) (io), G17 IO, DIFFIO_R2p (io), G18 IO, DIFFIO_R7n, (PADD23), (DQ2R)/(DQ1R)/(DQ1R) (io), H16 IO, DIFFIO_R10p (io), H17 IO, DIFFIO_R7p (io), H18 IO, VREFB6N1 (io), H19 IO, DIFFIO_R13p, (DQ0R)/(DQ1R)/(DQ1R) (io), H20 IO, DIFFIO_R13n, (DQ0R)/(DQ1R)/(DQ1R) (io), H21 IO, DIFFIO_R22p, (DQ0R)/(DQ1R)/(DQ1R) (io), H22 IO, DIFFIO_R22n, (DQ0R)/(DQ1R)/(DQ1R) (io), J17 IO, DIFFIO_R10n (io), J18 IO, VREFB6N2 (io), J21 IO, DIFFIO_R23p, (DM0R)/(DM1R/BWS#1R)/(DM1R/BWS#1R) (io), J22 IO, DIFFIO_R23n, (DQS0R/CQ1R,DPCLK7)/(DQS0R/CQ1R,DPCLK7)/(DQS0R/CQ1R,DPCLK7) (io), K17 IO, DIFFIO_R20n (io), K18 IO, DIFFIO_R20p, (DQ0R)/(DQ1R)/(DQ1R) (io), K19 IO, VREFB6N3 (io), K21 IO, DIFFIO_R24p, (CLKUSR) (io), K22 IO, DIFFIO_R24n, (nCEO) (io), L21 IO, DIFFIO_R27p, (CRC_ERROR) (io), L22 IO, DIFFIO_R27n, (INIT_DONE) (io)
part G pins: A13 IO, DIFFIO_T29n, (PADD11), (DQ4T)/(DQ5T)/(DQ5T) (io), A14 IO, DIFFIO_T31n, (PADD9), (DQ4T)/(DQ5T)/(DQ5T) (io), A15 IO, DIFFIO_T36n, (PADD5), (DQ4T)/(DQ5T)/(DQ5T) (io), A16 IO, DIFFIO_T40n, (DM2T)/(DM5T/BWS#5T)/(DM5T/BWS#5T) (io), A17 IO, DIFFIO_T41n, (PADD1), (DQ2T)/(DQ5T)/(DQ5T) (io), A18 IO, DIFFIO_T45n, (DQ2T)/(DQ5T)/(DQ5T) (io), A19 IO, RDN4 (io), A20 IO, PLL2_CLKOUTn (io), B13 IO, DIFFIO_T29p, (PADD12), (DQS4T/CQ5T,DPCLK9)/(DQS4T/CQ5T,DPCLK9)/(DQS4T/CQ5T,DPCLK9) (io), B14 IO, DIFFIO_T31p, (PADD10), (DQ4T)/(DQ5T)/(DQ5T) (io), B15 IO, DIFFIO_T36p, (PADD6), (DQ4T)/(DQ5T)/(DQ5T) (io), B16 IO, DIFFIO_T40p, (DQ4T)/(DQ5T)/(DQ5T) (io), B17 IO, DIFFIO_T41p, (PADD2), (_)/(DQ5T)/(DQ5T) (io), B18 IO, DIFFIO_T45p, (PADD0) (io), B19 IO, RUP4 (io), B20 IO, PLL2_CLKOUTp (io), C13 IO, DIFFIO_T35n, (PADD7) (io), C15 IO, VREFB7N2 (io), C17 IO, DIFFIO_T46p, (DQ2T)/(DQ5T)/(DQ5T) (io), C19 IO, DIFFIO_T47n, (DQ2T)/(DQ5T)/(DQ5T) (io), D13 IO, DIFFIO_T35p, (PADD8), (DQ4T)/(DQ5T)/(DQ5T) (io), D15 IO, VREFB7N1 (io), D17 IO, VREFB7N0 (io), D19 IO, DIFFIO_T47p, (DQ2T)/(DQ5T)/(DQ5T) (io), E11 IO, DIFFIO_T27n, (PADD13) (io), E12 IO, DIFFIO_T28p, (_)/(DQ5T)/(DQ5T) (io), E13 IO, VREFB7N3 (io), E14 IO, DIFFIO_T38n, (PADD3), (DQ4T)/(DQ5T)/(DQ5T) (io), E15 IO, DIFFIO_T44n, (DQ2T)/(DQ5T)/(DQ5T) (io), E16 IO, DIFFIO_T51p, (DQ2T)/(DQ5T)/(DQ5T) (io), F11 IO, DIFFIO_T27p, (PADD14), (DM4T)/(DM5T/BWS#5T)/(DM5T/BWS#5T) (io), F13 IO, DIFFIO_T37p, (PADD4), (DQS2T/CQ3T,DPCLK8)/(DQS2T/CQ3T,DPCLK8)/(DQS2T/CQ3T,DPCLK8) (io), F14 IO, DIFFIO_T49p, (DQS0T/CQ1T,CDPCLK6)/(DQS0T/CQ1T,CDPCLK6)/(DQS0T/CQ1T,CDPCLK6) (io), F15 IO, DIFFIO_T50n, (DQ2T)/(DQ5T)/(DQ5T) (io), F16 IO, DIFFIO_T51n (io), G13 IO, DIFFIO_T42n (io), G14 IO, DIFFIO_T44p (io), G15 IO, DIFFIO_T49n (io), G16 IO, DIFFIO_T50p (io), H14 IO, DIFFIO_T48p (io), H15 IO, DIFFIO_T48n (io)
part H pins: A3 IO, DIFFIO_T4n, (DATA10), (DQ3T)/(DQ3T)/(DQ5T) (io), A4 IO, DIFFIO_T6n, (DQ3T)/(DQ3T)/(DQ5T) (io), A5 IO, DIFFIO_T11p, (DATA5), (DQ3T)/(DQ3T)/(DQ5T) (io), A6 IO, DIFFIO_T18n, (PADD19), (DQ5T)/(DQ3T)/(DQ5T) (io), A7 IO, DIFFIO_T19n, (PADD18), (DQ5T)/(DQ3T)/(DQ5T) (io), A8 IO, DIFFIO_T20n, (DATA2), (DQ5T)/(DQ3T)/(DQ5T) (io), A9 IO, DIFFIO_T24n, (PADD16), (DQ5T)/(DQ3T)/(DQ5T) (io), A10 IO, DIFFIO_T25n, (DQ5T)/(DQ3T)/(DQ5T) (io), B3 IO, DIFFIO_T4p, (DATA11), (DQ3T)/(DQ3T)/(DQ5T) (io), B4 IO, DIFFIO_T6p, (DATA8), (DQ3T)/(DQ3T)/(DQ5T) (io), B5 IO, VREFB8N2 (io), B6 IO, DIFFIO_T18p, (DATA15), (DQ5T)/(DQ3T)/(DQ5T) (io), B7 IO, DIFFIO_T19p, (DATA4), (DQ5T)/(DQ3T)/(DQ5T) (io), B8 IO, DIFFIO_T20p, (DATA3), (DQ5T)/(DQ3T)/(DQ5T) (io), B9 IO, DIFFIO_T24p, (PADD17), (DQS5T/CQ5T#,DPCLK10)/(DQS5T/CQ5T#,DPCLK10)/(DQS5T/CQ5T#,DPCLK10) (io), B10 IO, DIFFIO_T25p, (PADD15) (io), C3 IO, DIFFIO_T3n, (DQ3T)/(DQ3T)/(DQ5T) (io), C4 IO, DIFFIO_T3p, (DATA12), (DQS1T/CQ1T#,CDPCLK7)/(DQS1T/CQ1T#,CDPCLK7)/(DQS1T/CQ1T#,CDPCLK7) (io), C6 IO, DIFFIO_T7n, (DATA7), (DQ3T)/(DQ3T)/(DQ5T) (io), C7 IO, DIFFIO_T16p, (DATA13), (DM5T/BWS#5T)/(DM3T/BWS#3T)/(DM5T/BWS#5T) (io), C8 IO, DIFFIO_T16n, (DATA14), (DQS3T/CQ3T#,DPCLK11)/(DQS3T/CQ3T#,DPCLK11)/(DQS3T/CQ3T#,DPCLK11) (io), C10 IO, VREFB8N0 (io), D6 IO, VREFB8N3 (io), D7 IO, DIFFIO_T7p (io), D10 IO, DIFFIO_T26n, (DQ5T)/(DQ3T)/(DQ5T) (io), E5 IO, PLL3_CLKOUTp (io), E6 IO, PLL3_CLKOUTn (io), E7 IO (io), E9 IO, VREFB8N1 (io), E10 IO, DIFFIO_T26p (io), F7 IO, DIFFIO_T1n, (DM3T/BWS#3T)/(DM3T/BWS#3T)/(DM5T/BWS#5T) (io), F8 IO, DIFFIO_T5n, (DATA9), (DQ3T)/(DQ3T)/(DQ5T) (io), F9 IO (io), F10 IO, DIFFIO_T8p, (DATA6), (DQ3T)/(DQ3T)/(DQ5T) (io), G7 IO, DIFFIO_T1p (io), G8 IO, DIFFIO_T5p (io), G9 IO (io), G10 IO, DIFFIO_T8n (io), G11 IO, DIFFIO_T22n (io), H10 IO, DIFFIO_T14p (io), H11 IO, DIFFIO_T14n (io)
part I pins: A11 CLK10, DIFFCLK_4n (in), A12 CLK8, DIFFCLK_5n (in), AA11 CLK15, DIFFCLK_6p (in), AA12 CLK13, DIFFCLK_7p (in), AB11 CLK14, DIFFCLK_6n (in), AB12 CLK12, DIFFCLK_7n (in), B11 CLK11, DIFFCLK_4p (in), B12 CLK9, DIFFCLK_5p (in), G1 CLK1, DIFFCLK_0n (in), G21 CLK4, DIFFCLK_2p (in), G22 CLK5, DIFFCLK_2n (in), T1 CLK3, DIFFCLK_1n (in), T2 CLK2, DIFFCLK_1p (in), T21 CLK6, DIFFCLK_3p (in), T22 CLK7, DIFFCLK_3n (in)
part J pins: K2 DCLK (io), K5 nCONFIG (in), K6 nSTATUS (io), K20 MSEL3 (in), L1 TMS (in), L2 TCK (in), L3 nCE (in), L4 TDO (out), L5 TDI (in), L17 MSEL2 (in), L18 MSEL1 (in), M17 MSEL0 (in), M18 CONF_DONE (io)
part K pins: A2 VCCIO8 (power), A21 VCCIO7 (power), AA6 VCCIO3 (power), AB2 VCCIO3 (power), AB21 VCCIO4 (power), D4 VCCIO1 (power), D5 VCCIO8 (power), D9 VCCIO8 (power), D11 VCCIO8 (power), D12 VCCIO7 (power), D14 VCCIO7 (power), D16 VCCIO7 (power), D18 VCCIO7 (power), E8 VCCIO8 (power), E19 VCCIO6 (power), F4 VCCIO1 (power), G12 VCCINT (power), G19 VCCIO6 (power), H4 VCCIO1 (power), H9 VCCINT (power), J10 VCCINT (power), J11 VCCINT (power), J12 VCCINT (power), J13 VCCINT (power), J14 VCCINT (power), J16 VCCINT (power), J20 VCCIO6 (power), K4 VCCIO1 (power), K9 VCCINT (power), K14 VCCINT (power), K15 VCCINT (power), L9 VCCINT (power), L14 VCCINT (power), L16 VCCINT (power), L19 VCCIO6 (power), M9 VCCINT (power), M14 VCCINT (power), M15 VCCINT (power), N4 VCCIO2 (power), N9 VCCINT (power), N14 VCCINT (power), P9 VCCINT (power), P10 VCCINT (power), P11 VCCINT (power), P12 VCCINT (power), P13 VCCINT (power), P14 VCCINT (power), P18 VCCIO5 (power), R4 VCCIO2 (power), R8 VCCINT (power), R10 VCCINT (power), R12 VCCINT (power), T19 VCCIO5 (power), U4 VCCIO2 (power), V19 VCCIO5 (power), W4 VCCIO2 (power), W5 VCCIO3 (power), W9 VCCIO3 (power), W11 VCCIO3 (power), W12 VCCIO4 (power), W16 VCCIO4 (power), W18 VCCIO4 (power), Y14 VCCIO4 (power), Y19 VCCIO5 (power)
part L pins: A1 GND (power), A22 GND (power), AA2 GND (power), AA22 GND (power), AB1 GND (power), AB6 GND (power), AB22 GND (power), C5 GND (power), C9 GND (power), C11 GND (power), C12 GND (power), C14 GND (power), C16 GND (power), C18 GND (power), D3 GND (power), D8 GND (power), E20 GND (power), F3 GND (power), F12 GND (power), G2 GND (power), G20 GND (power), H3 GND (power), H12 GND (power), H13 GND (power), J9 GND (power), J15 GND (power), J19 GND (power), K3 GND (power), K10 GND (power), K11 GND (power), K12 GND (power), K13 GND (power), K16 GND (power), L10 GND (power), L11 GND (power), L12 GND (power), L13 GND (power), L15 GND (power), L20 GND (power), M10 GND (power), M11 GND (power), M12 GND (power), M13 GND (power), N3 GND (power), N10 GND (power), N11 GND (power), N12 GND (power), N13 GND (power), N15 GND (power), P8 GND (power), P19 GND (power), R3 GND (power), R9 GND (power), R11 GND (power), R13 GND (power), T20 GND (power), U3 GND (power), V20 GND (power), W3 GND (power), Y5 GND (power), Y9 GND (power), Y11 GND (power), Y12 GND (power), Y15 GND (power), Y16 GND (power), Y18 GND (power), Y20 GND (power)
part M pins: E17 VCCD_PLL2 (power), E18 GNDA2 (power), F5 GNDA3 (power), F6 VCCD_PLL3 (power), F18 VCCA2 (power), G6 VCCA3 (power), T6 VCCA1 (power), U5 GNDA1 (power), U6 VCCD_PLL1 (power), U18 VCCA4 (power), V17 VCCD_PLL4 (power), V18 GNDA4 (power)
part A text: BANK 1
part B text: BANK 2
part C text: BANK 3
part D text: BANK 4
part E text: BANK 5
part F text: BANK 6
part G text: BANK 7
part H text: BANK 8

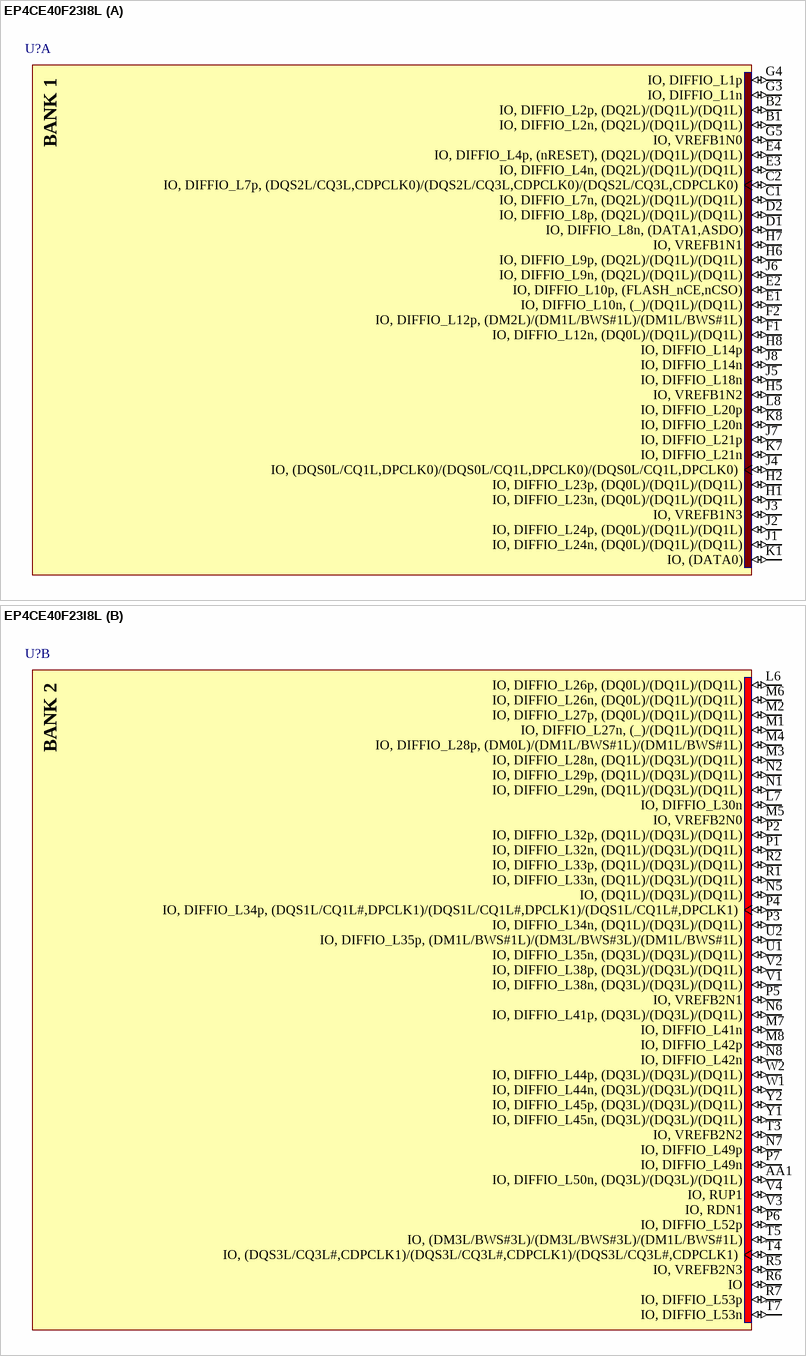
[diagram p196: symbol EP4CE40F23I8L]

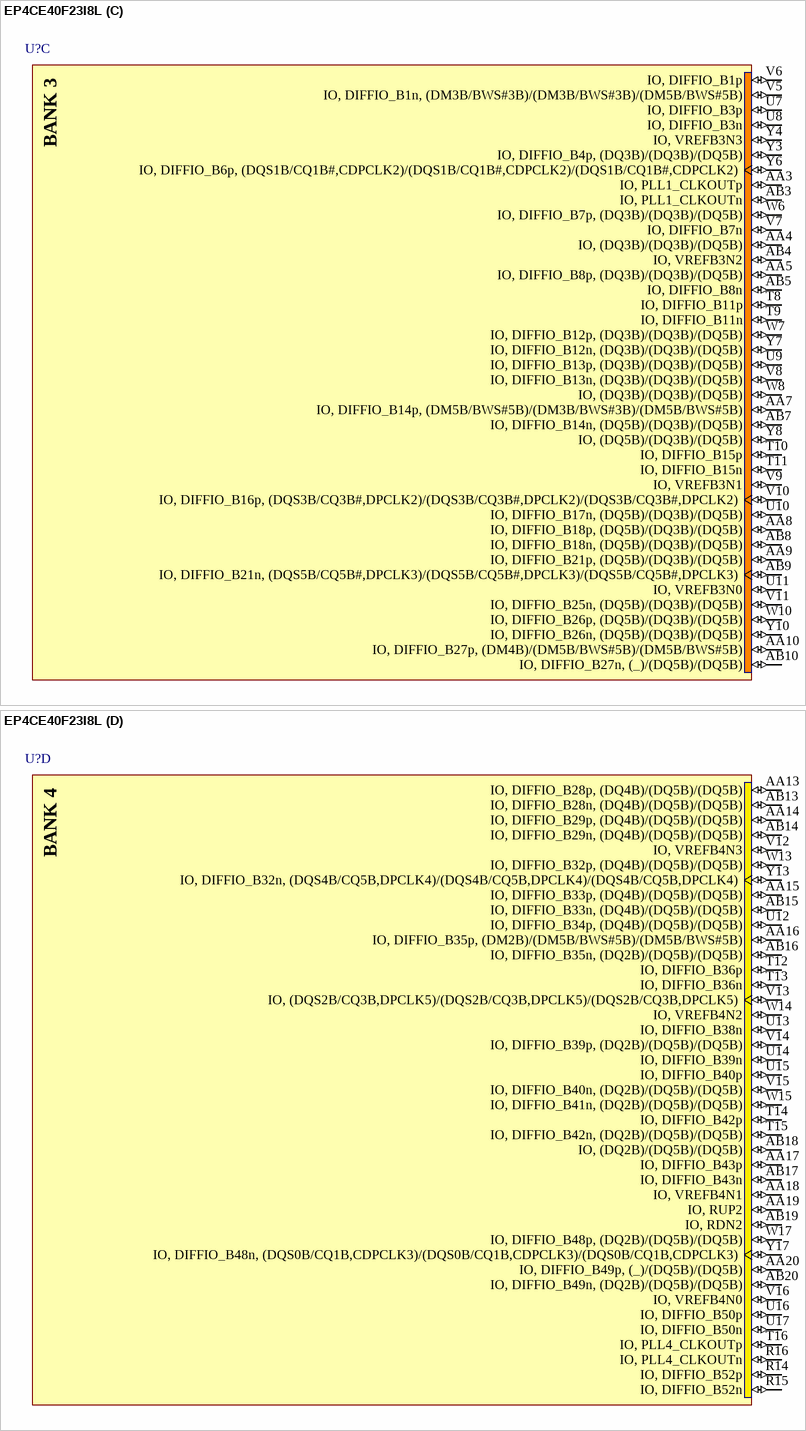
[diagram p197: symbol EP4CE40F23I8L]

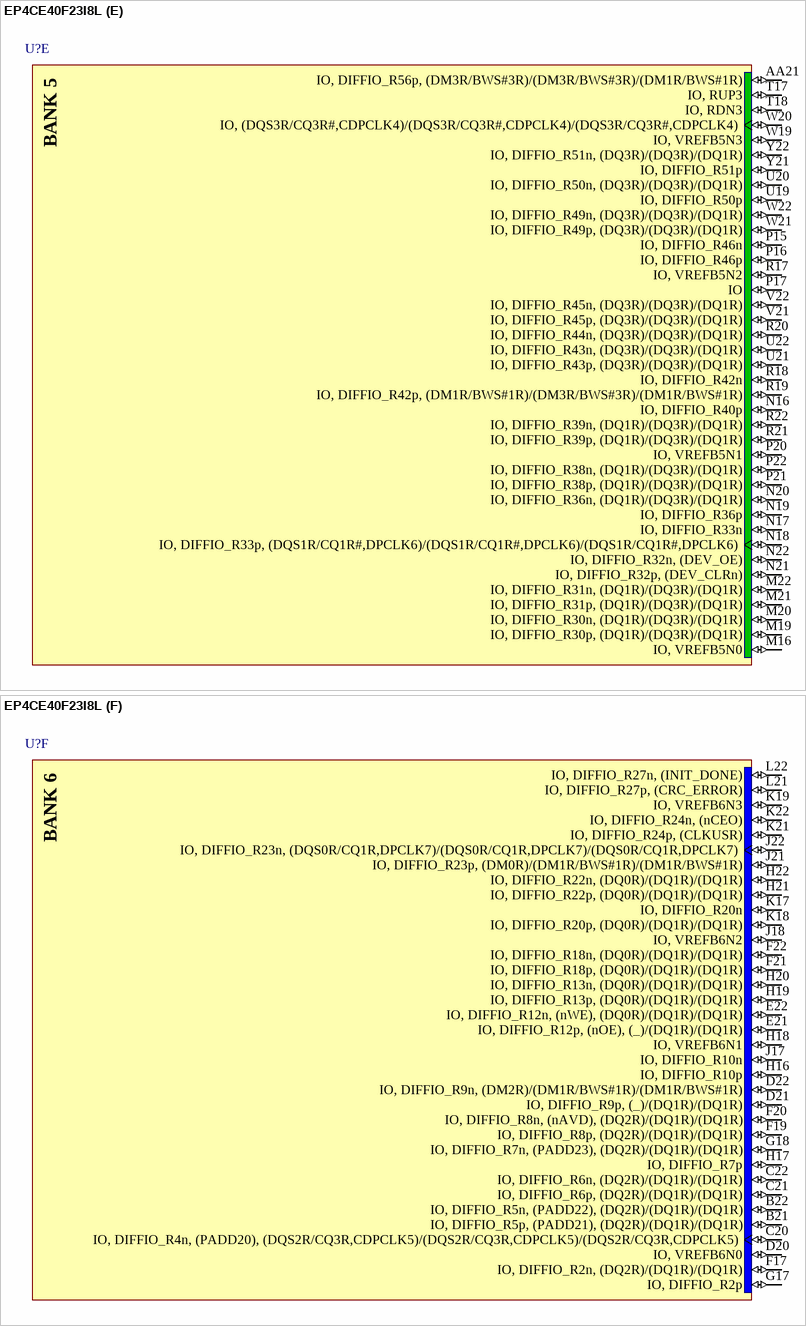
[diagram p198: symbol EP4CE40F23I8L]

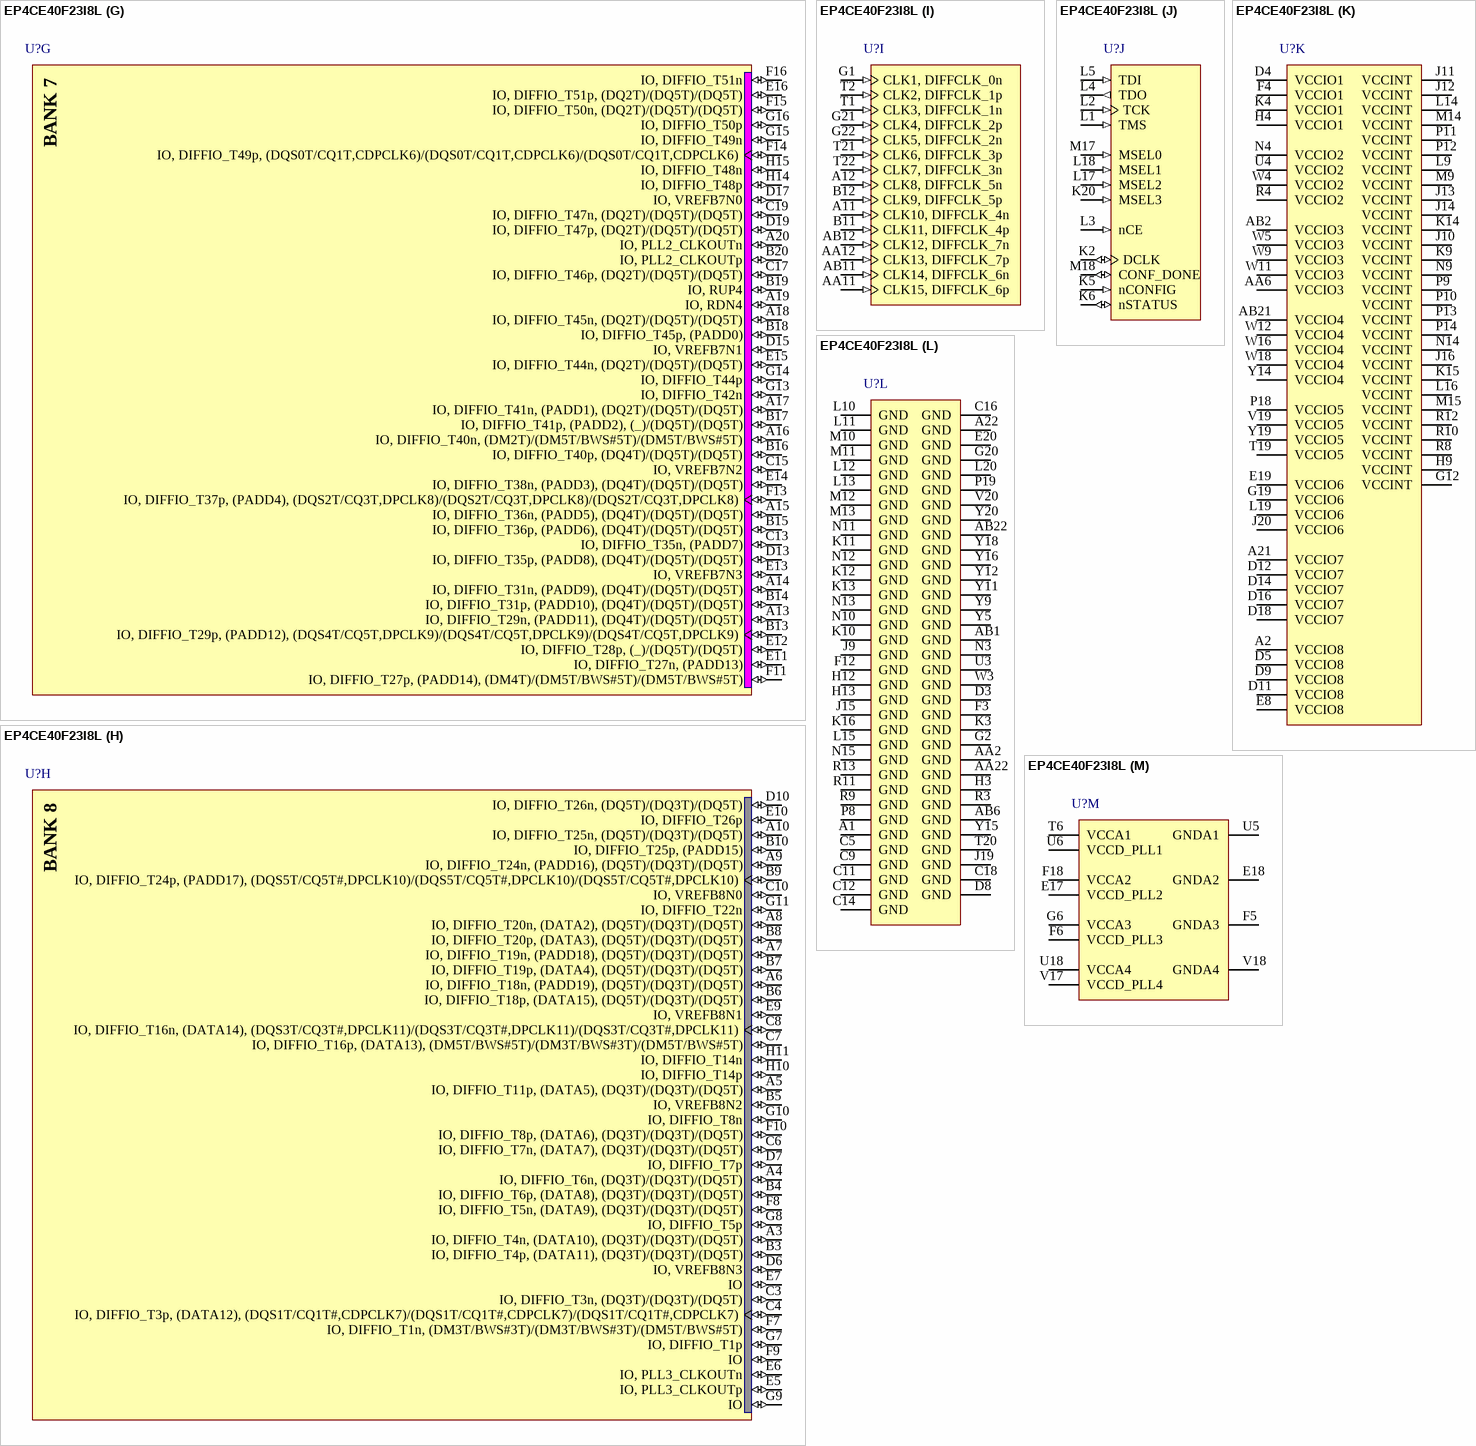
[diagram p199: symbol EP4CE40F23I8L]